# Altium schematic symbol library Iris.SchLib: 154 symbols
Pins are listed as number, name and electrical type; pins without a type are passive.

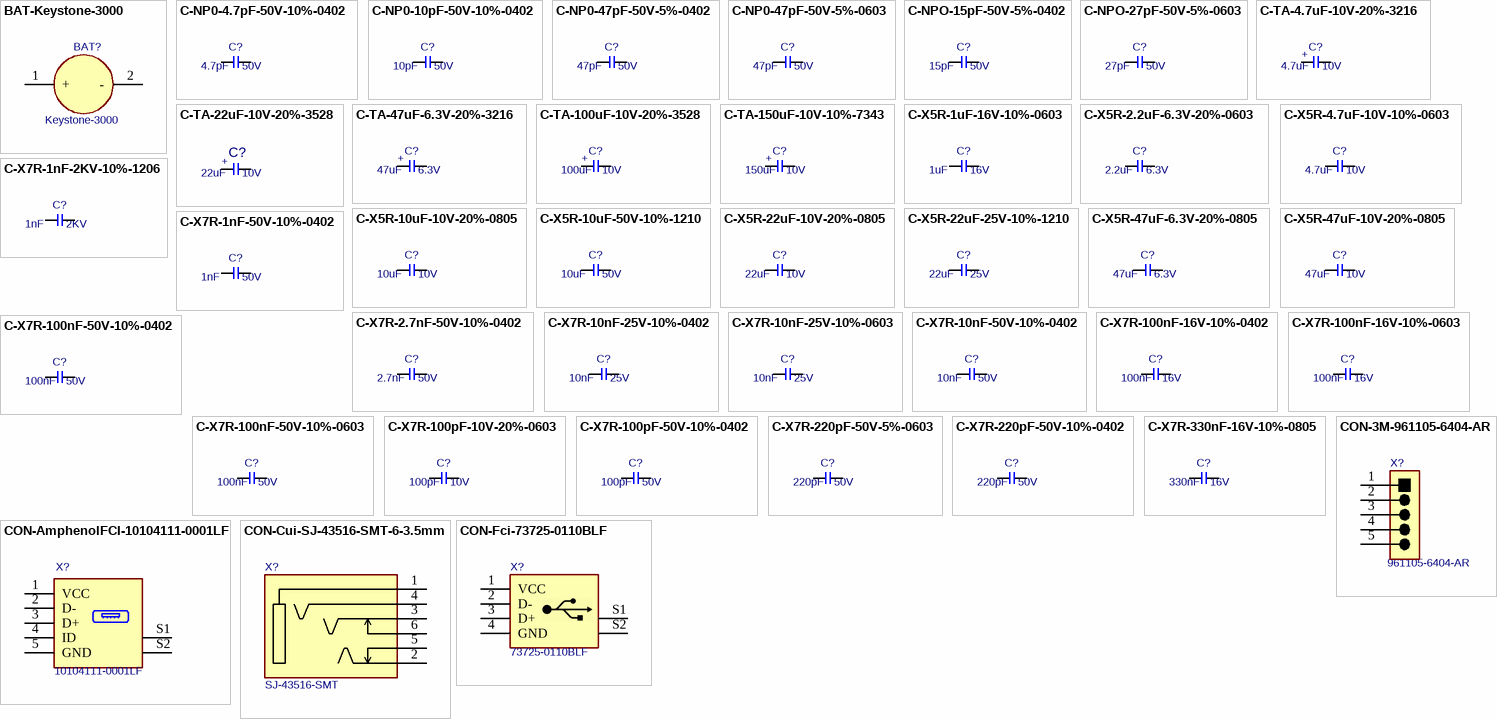
[diagram p0: symbols BAT-Keystone-3000 to CON-Fci-73725-0110BLF]

## BAT-Keystone-3000
designator BAT?, comment Keystone-3000
Battery Holder; Manufacturer Part No.: 3000; Manufacturer Name: Keystone
footprint T_Keystone_3000 (Battery Holder)
pins: 1 +, 2 -

## C-NP0-4.7pF-50V-10%-0402
designator C?, comment Rating: 50V  (hidden comment: 4.7pF)
Capacitor Ceramic NP0  4.7pF 50V 10% 0402; Tolerance: 10%; Type: NP0; Value: 4.7pF
footprint CAPC1005X60N
pins: 1, 2

## C-NP0-10pF-50V-10%-0402
designator C?, comment Rating: 50V  (hidden comment: 10pF)
Capacitor Ceramic NP0 10pF 50V 10% 0402; Tolerance: 10%; Type: NP0; Value: 10pF
footprint CAPC1005X60N
pins: 1, 2

## C-NP0-47pF-50V-5%-0402
designator C?, comment Rating: 50V  (hidden comment: 47pF)
Capacitor Ceramic NP0 47pF 50V 5% 0402; Tolerance: 5%; Type: NP0; Value: 47pF
footprint CAPC1005X60N
pins: 1, 2

## C-NP0-47pF-50V-5%-0603
designator C?, comment Rating: 50V  (hidden comment: 47pF)
Capacitor Ceramic NP0 47pF 50V 5% 0603; Tolerance: 5%; Type: NP0; Value: 47pF
footprint T_CAPC0603X33N
pins: 1, 2

## C-NPO-15pF-50V-5%-0402
designator C?, comment Rating: 50V  (hidden comment: 15pF)
Capacitor Ceramic NPO 15pF 50V 5% 0402; Tolerance: 5%; Type: NPO; Value: 15pF
footprint CAPC1005X60N
pins: 1, 2

## C-NPO-27pF-50V-5%-0603
designator C?, comment Rating: 50V  (hidden comment: 27pF)
Capacitor Ceramic NPO 27pF 50V 5% 0603; Tolerance: 5%; Type: NPO; Value: 27pF
footprint T_CAPC0603X33N
pins: 1, 2

## C-TA-4.7uF-10V-20%-3216
designator C?, comment Rating: 10V  (hidden comment: 4.7uF)
Capacitor TA 4.7pF 10V 20% 3216; Tolerance: 20%; Type: TA; Value: 4.7uF
footprint T_CAPMP3216X180N
pins: 1, 2
text: +

## C-TA-22uF-10V-20%-3528
designator C?, comment Rating: 10V  (hidden comment: 22uF)
Capacitor TA 22uF 10V 20% 3528; Tolerance: 20%; Type: TA; Value: 22uF
footprint CAPMP3528X210N
pins: 1, 2
text: +

## C-TA-47uF-6.3V-20%-3216
designator C?, comment Rating: 6.3V  (hidden comment: 47uF)
Capacitor TA 47uF 6.3V 20% 3216; Tolerance: 20%; Type: TA; Value: 47uF
footprint CAPMP3528X210N
pins: 1, 2
text: +

## C-TA-100uF-10V-20%-3528
designator C?, comment Rating: 10V  (hidden comment: 100uF)
Capacitor TA 100uF 10V 20% 3528; Tolerance: 20%; Type: TA; Value: 100uF
footprint CAPMP3528X210N
pins: 1, 2
text: +

## C-TA-150uF-10V-10%-7343
designator C?, comment Rating: 10V  (hidden comment: 150uF)
Capacitor TA 150uF 10V 20% 7343; Tolerance: 10%; Type: TA; Value: 150uF
footprint CAPMP7343X310N
pins: 1, 2
text: +

## C-X5R-1uF-16V-10%-0603
designator C?, comment Rating: 16V  (hidden comment: 1uF)
Capacitor Ceramic X5R 1uF 16V 10% 0603; Tolerance: 10%; Type: X5R; Value: 1uF
footprint T_CAPC0603X33N
pins: 1, 2

## C-X5R-2.2uF-6.3V-20%-0603
designator C?, comment Rating: 6.3V  (hidden comment: 2.2uF)
Capacitor Ceramic X5R 2.2uF 6.3V 20% 0603; Tolerance: 20%; Type: X5R; Value: 2.2uF
footprint T_CAPC0603X33N
pins: 1, 2

## C-X5R-4.7uF-10V-10%-0603
designator C?, comment Rating: 10V  (hidden comment: 4.7uF)
Capacitor Ceramic X5R 4.7uF 10V 10% 0603; Manufacturer Name: Generic; Tolerance: 10%; Type: X5R; Manufacturer Part No.: *; Value: 4.7uF
footprint T_CAPC0603X33N
pins: 1, 2

## C-X5R-10uF-10V-20%-0805
designator C?, comment Rating: 10V  (hidden comment: 10uF)
Capacitor Ceramic X5R 10uF 10V 20% 0805; Tolerance: 20%; Type: X5R; Value: 10uF
footprint T_CAPC0805X125N
pins: 1, 2

## C-X5R-10uF-50V-10%-1210
designator C?, comment Rating: 50V  (hidden comment: 10uF)
Capacitor Ceramic X5R 10uF 50V 10% 1210; Tolerance: 10%; Type: X5R; Value: 10uF
footprint CAPC3225X160N
pins: 1, 2

## C-X5R-22uF-10V-20%-0805
designator C?, comment Rating: 10V  (hidden comment: 22uF)
Capacitor Ceramic X5R 22uF 10V 20% 0805; Tolerance: 20%; Type: X5R; Value: 22uF
footprint T_CAPC0805X125N
pins: 1, 2

## C-X5R-22uF-25V-10%-1210
designator C?, comment Rating: 25V  (hidden comment: 22uF)
Capacitor Ceramic X5R 22uF 25V 10% 1210; Tolerance: 10%; Type: X5R; Value: 22uF
footprint CAPC3225X160N
pins: 1, 2

## C-X5R-47uF-6.3V-20%-0805
designator C?, comment Rating: 6.3V  (hidden comment: 47uF)
Capacitor Ceramic X5R 47uF 6.3V 20% 0805; Tolerance: 20%; Type: X5R; Value: 47uF
footprint T_CAPC0805X125N
pins: 1, 2

## C-X5R-47uF-10V-20%-0805
designator C?, comment Rating: 10V  (hidden comment: 47uF)
Capacitor Ceramic X5R 47uF 10V 20% 0805; Tolerance: 20%; Type: X5R; Value: 47uF
footprint T_CAPC0805X125N
pins: 1, 2

## C-X7R-1nF-2KV-10%-1206
designator C?, comment Rating: 2KV  (hidden comment: 1nF)
Capacitor Ceramic X7R 1nF 2KV 10% 1206; Tolerance: 10%; Type: X7R; Value: 1nF
footprint T_CAPC1206X180N (Ceramic Capacitor 1206 (3216 metric), max height 1.8mm)
pins: 1, 2

## C-X7R-1nF-50V-10%-0402
designator C?, comment Rating: 50V  (hidden comment: 1nF)
Capacitor Ceramic X7R 1nF 50V 10% 0402; Tolerance: 10%; Type: X7R; Value: 1nF
footprint CAPC1005X60N
pins: 1, 2

## C-X7R-2.7nF-50V-10%-0402
designator C?, comment Rating: 50V  (hidden comment: 2.7nF)
Capacitor Ceramic X7R 2.7nF 50V 10% 0402; Tolerance: 10%; Type: X7R; Value: 2.7nF
footprint CAPC1005X60N
pins: 1, 2

## C-X7R-10nF-25V-10%-0402
designator C?, comment Rating: 25V  (hidden comment: 10nF)
Capacitor Ceramic X7R 10nF 25V 10% 0402; Tolerance: 10%; Type: X7R; Value: 10nF
footprint CAPC1005X60N
pins: 1, 2

## C-X7R-10nF-25V-10%-0603
designator C?, comment Rating: 25V  (hidden comment: 10nF)
Capacitor Ceramic X7R 10nF 25V 10% 0603; Tolerance: 10%; Type: X7R; Value: 10nF
footprint T_CAPC0603X33N
pins: 1, 2

## C-X7R-10nF-50V-10%-0402
designator C?, comment Rating: 50V  (hidden comment: 10nF)
Capacitor Ceramic X7R 10nF 50V 10% 0402; Tolerance: 10%; Type: X7R; Value: 10nF
footprint CAPC1005X60N
pins: 1, 2

## C-X7R-100nF-16V-10%-0402
designator C?, comment Rating: 16V  (hidden comment: 100nF)
Capacitor Ceramic X7R 100nF 16V 10% 0402; Tolerance: 10%; Type: X7R; Value: 100nF
footprint CAPC1005X60N
pins: 1, 2

## C-X7R-100nF-16V-10%-0603
designator C?, comment Rating: 16V  (hidden comment: 100nF)
Capacitor Ceramic X7R 100nF 16V 10% 0603; Tolerance: 10%; Type: X7R; Value: 100nF
footprint T_CAPC0603X33N
pins: 1, 2

## C-X7R-100nF-50V-10%-0402
designator C?, comment Rating: 50V  (hidden comment: 100nF)
Capacitor Ceramic X7R 100nF 50V 10% 0402; Tolerance: 10%; Type: X7R; Value: 100nF
footprint CAPC1005X60N
pins: 1, 2

## C-X7R-100nF-50V-10%-0603
designator C?, comment Rating: 50V  (hidden comment: 100nF)
Capacitor Ceramic X7R 100nF 50V 10% 0603; Tolerance: 10%; Type: X7R; Value: 100nF
footprint T_CAPC0603X33N
pins: 1, 2

## C-X7R-100pF-10V-20%-0603
designator C?, comment Rating: 10V  (hidden comment: 100pF)
Capacitor Ceramic X7R 100pF 10V 20% 0603; Tolerance: 20%; Type: X7R; Value: 100pF
footprint T_CAPC0603X33N
pins: 1, 2

## C-X7R-100pF-50V-10%-0402
designator C?, comment Rating: 50V  (hidden comment: 100pF)
Capacitor Ceramic X7R 100pF 50V 10% 0402; Tolerance: 10%; Type: X7R; Value: 100pF
footprint CAPC1005X60N (Ceramic Capacitor 0402 (1005 metric), max height 0.5mm)
pins: 1, 2

## C-X7R-220pF-50V-5%-0603
designator C?, comment Rating: 50V  (hidden comment: 220pF)
Capacitor Ceramic X7R 220pF 50V 5% 0603; Tolerance: 5%; Type: X7R; Value: 220pF
footprint T_CAPC0603X33N
pins: 1, 2

## C-X7R-220pF-50V-10%-0402
designator C?, comment Rating: 50V  (hidden comment: 220pF)
Capacitor Ceramic X7R 220pF 50V 10% 0402; Tolerance: 10%; Type: X7R; Value: 220pF
footprint CAPC1005X60N
pins: 1, 2

## C-X7R-330nF-16V-10%-0805
designator C?, comment Rating: 16V  (hidden comment: 330nF)
Capacitor Ceramic X7R 330nF 16V 10% 0805; Tolerance: 10%; Type: X7R; Value: 330nF
footprint T_CAPC0805X125N
pins: 1, 2

## CON-3M-961105-6404-AR
designator X?, comment 961105-6404-AR
Audio Header 5 pins 2.54mm; Manufacturer Name: 3M; No. of ways: 1X5; Pitch: 2.54mm; Manufacturer Part No.: 961105-6404-AR
footprint T_3M_961105-6404-AR (Connector; Header; 35 Position)
pins: 1, 2, 3, 4, 5

## CON-AmphenolFCI-10104111-0001LF
designator X?, comment 10104111-0001LF
USB - micro AB USB 2.0 5 Position Surface Mount, Right Angle, Horizontal; Manufacturer Name: Amphenol FCI; No. of ways: 5; Manufacturer Part No.: 10104111-0001LF
footprint CON-AmphenolFCI-10104111-0001LF (USB - micro AB USB 2.0 5 Position Surface Mount, Right Angle, Horizontal)
pins: 1 VCC (power), 2 D-, 3 D+, 4 ID, 5 GND (power), S1 (power), S2 (power)

## CON-Cui-SJ-43516-SMT-6-3.5mm
designator X?, comment SJ-43516-SMT
3.5mm Stereo Jack SMD with Detect Contact; Manufacturer Name: Cui INC; No. of ways: 6; Manufacturer Part No.: SJ-43516-SMT
footprint T_CI_SJ-43516-SMT (STEREO_3.5mm AUDIO JACK  CUI)
pins: 1, 2, 3, 4, 5, 6

## CON-Fci-73725-0110BLF
designator X?  Manufacturer Part No.: 73725-0110BLF
USB Type A Connector; Manufacturer Name: FCI; No. of ways: 4
footprint T_FCI_73725-0110BLF (USB Type A Connector Vertical)
pins: 1 VCC (power), 2 D-, 3 D+, 4 GND (power), S1, S2

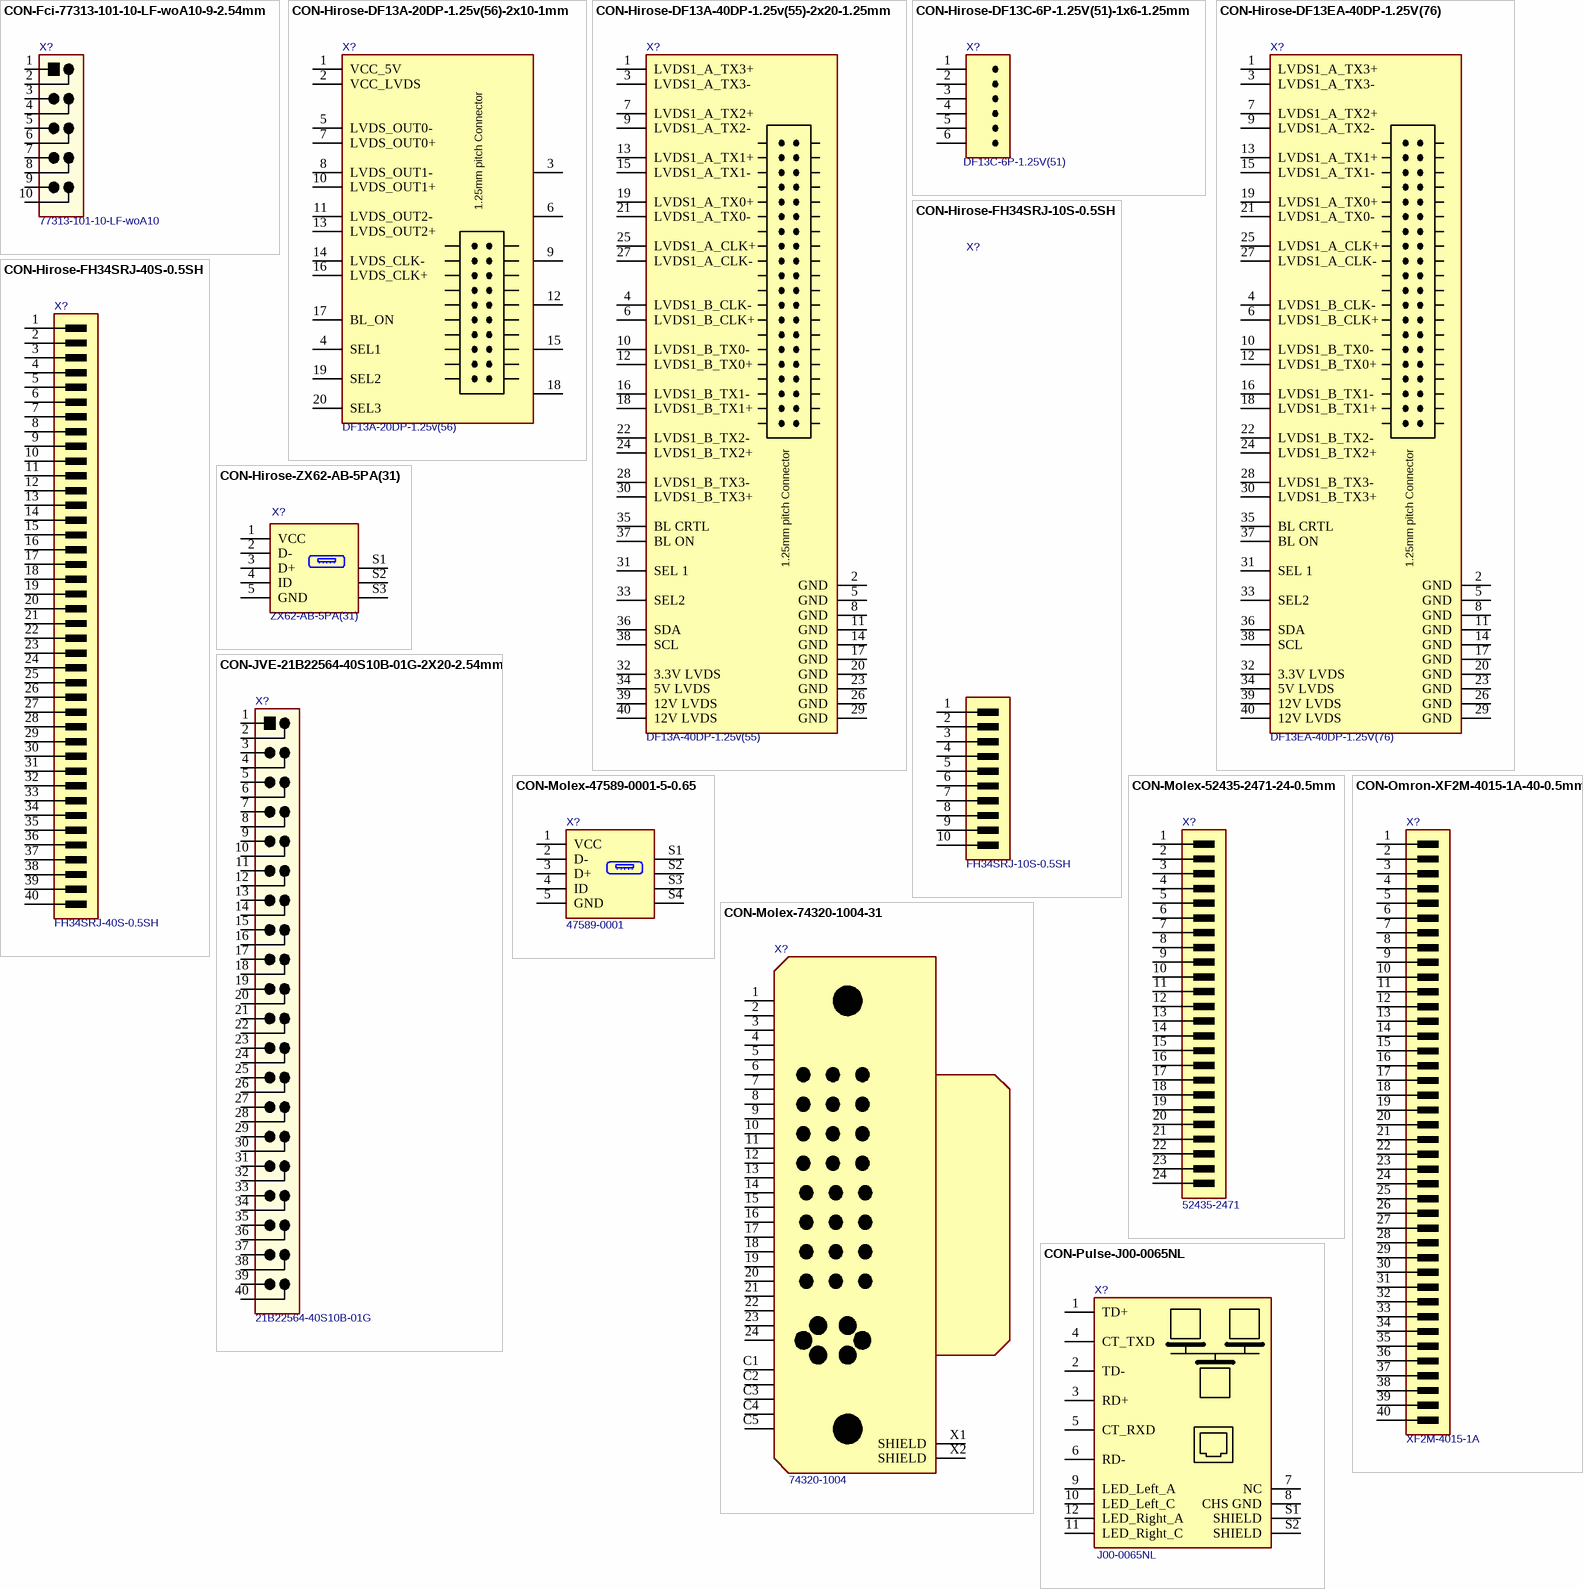
[diagram p1: symbols CON-Fci-77313-101-10-LF-woA10-9-2.54mm to CON-Pulse-J00-0065NL]

## CON-Fci-77313-101-10-LF-woA10-9-2.54mm
designator X?, comment 77313-101-10-LF-woA10
RS232 Header; Manufacturer Name: FCI; No. of ways: 9; Manufacturer Part No.: 77313-101-10-LF-woA10
footprint T_FCI_77313-101-10-LF-woA10 (2.54 mm header)
pins: 1, 2, 3, 4, 5, 6, 7, 8, 9, 10

## CON-Hirose-DF13A-20DP-1.25v(56)-2x10-1mm
designator X?  Manufacturer Part No.: DF13A-20DP-1.25v(56)  (hidden comment: CON-Hirose-DF13A-20DP-1.25v(56)-2x10-1mm)
LVDS Connector; Manufacturer Name: Hirose; No. of ways: 2x10; Pitch: 1mm
footprint T_HIROSE_DF13A-20DP-1.25V(56)
pins: 1 VCC_5V, 2 VCC_LVDS, 3 GND, 4 SEL1, 5 LVDS_OUT0-, 6 GND, 7 LVDS_OUT0+, 8 LVDS_OUT1-, 9 GND, 10 LVDS_OUT1+, 11 LVDS_OUT2-, 12 GND, 13 LVDS_OUT2+, 14 LVDS_CLK-, 15 GND, 16 LVDS_CLK+, 17 BL_ON, 18 GND, 19 SEL2, 20 SEL3
text: 1.25mm pitch Connector

## CON-Hirose-DF13A-40DP-1.25v(55)-2x20-1.25mm
designator X?, comment Manufacturer Part No.: DF13A-40DP-1.25v(55)  (hidden comment: CON-Hirose-DF13A-40DP-1.25v(55)-2x10-1mm)
LVDS Connector; Manufacturer Name: Hirose; No. of ways: 2x20; Pitch: 1.25mm
footprint T_HIROSE_DF13A-40DP-1.25V(55)
pins: 1 LVDS1_A_TX3+, 2 GND, 3 LVDS1_A_TX3-, 4 LVDS1_B_CLK-, 5 GND, 6 LVDS1_B_CLK+, 7 LVDS1_A_TX2+, 8 GND, 9 LVDS1_A_TX2-, 10 LVDS1_B_TX0-, 11 GND, 12 LVDS1_B_TX0+, 13 LVDS1_A_TX1+, 14 GND, 15 LVDS1_A_TX1-, 16 LVDS1_B_TX1-, 17 GND, 18 LVDS1_B_TX1+, 19 LVDS1_A_TX0+, 20 GND, 21 LVDS1_A_TX0-, 22 LVDS1_B_TX2-, 23 GND, 24 LVDS1_B_TX2+, 25 LVDS1_A_CLK+, 26 GND, 27 LVDS1_A_CLK-, 28 LVDS1_B_TX3-, 29 GND, 30 LVDS1_B_TX3+, 31 SEL 1, 32 3.3V LVDS, 33 SEL2, 34 5V LVDS, 35 BL CRTL, 36 SDA, 37 BL ON, 38 SCL, 39 12V LVDS, 40 12V LVDS
text: 1.25mm pitch Connector

## CON-Hirose-DF13C-6P-1.25V(51)-1x6-1.25mm
designator X?, comment DF13C-6P-1.25V(51)
Touch Connector; Manufacturer Name: Hirose; No. of ways: 1X6; Pitch: 1.25mm; Manufacturer Part No.: DF13C-6P-1.25V(51)
footprint T_HIROSE_DF13C-6P-1.25V(51) (Touch connector)
pins: 1 GND, 2 TSMY, 3 TSPY, 4 TSMX, 5 TSPX, 6 WIPER

## CON-Hirose-DF13EA-40DP-1.25V(76)
designator X?, comment DF13EA-40DP-1.25V(76)
LVDS Connector, 2x20 pin, 1.25mm pitch, SMD; Manufacturer Name: Hirose; No. of ways: 2x20; Pitch: 1.25mm; Manufacturer Part No.: DF13EA-40DP-1.25V(76)
footprint T_HIROSE_DF13A-40DP-1.25V(55)
pins: 1 LVDS1_A_TX3+, 2 GND, 3 LVDS1_A_TX3-, 4 LVDS1_B_CLK-, 5 GND, 6 LVDS1_B_CLK+, 7 LVDS1_A_TX2+, 8 GND, 9 LVDS1_A_TX2-, 10 LVDS1_B_TX0-, 11 GND, 12 LVDS1_B_TX0+, 13 LVDS1_A_TX1+, 14 GND, 15 LVDS1_A_TX1-, 16 LVDS1_B_TX1-, 17 GND, 18 LVDS1_B_TX1+, 19 LVDS1_A_TX0+, 20 GND, 21 LVDS1_A_TX0-, 22 LVDS1_B_TX2-, 23 GND, 24 LVDS1_B_TX2+, 25 LVDS1_A_CLK+, 26 GND, 27 LVDS1_A_CLK-, 28 LVDS1_B_TX3-, 29 GND, 30 LVDS1_B_TX3+, 31 SEL 1, 32 3.3V LVDS, 33 SEL2, 34 5V LVDS, 35 BL CRTL, 36 SDA, 37 BL ON, 38 SCL, 39 12V LVDS, 40 12V LVDS
text: 1.25mm pitch Connector

## CON-Hirose-FH34SRJ-10S-0.5SH
designator X?, comment FH34SRJ-10S-0.5SH
FFC Connector, 10 pin, 0.5mm pitch, dual side contact; Manufacturer Name: Hirose; No. of ways: 10; Pitch: 0.5mm; Manufacturer Part No.: FH34SRJ-10S-0.5SH
footprint T_Hirose_FH34SRJ-10S-0.5SH (FFC Connector, 10 pin, 0.5mm pitch, dual side contact)
pins: 1, 2, 3, 4, 5, 6, 7, 8, 9, 10

## CON-Hirose-FH34SRJ-40S-0.5SH
designator X?, comment FH34SRJ-40S-0.5SH
FFC Connector, 40 pin, 0.5mm pitch, dual side contact; Manufacturer Name: Hirose; No. of ways: 40; Pitch: 0.5mm; Manufacturer Part No.: FH34SRJ-40S-0.5SH
footprint T_Hirose_FH34SRJ-40S-0.5SH (FFC Connector, 40 pin, 0.5mm pitch, dual side contact)
pins: 1, 2, 3, 4, 5, 6, 7, 8, 9, 10, 11, 12, 13, 14, 15, 16, 17, 18, 19, 20, 21, 22, 23, 24, 25, 26, 27, 28, 29, 30, 31, 32, 33, 34, 35, 36, 37, 38, 39, 40

## CON-Hirose-ZX62-AB-5PA(31)
designator X?, comment ZX62-AB-5PA(31)
Micro AB USB-2.0, 5 Position, Surface Mount, Right Angle, Horizontal; Manufacturer Name: Hirose; No. of ways: 5; Manufacturer Part No.: ZX62-AB-5PA(31)
footprint CON-MicroUSB2.0-Type_AB-SMD (USB - micro AB USB 2.0, 5 Position, Surface Mount, Right Angle, Horizontal)
pins: 1 VCC (power), 2 D-, 3 D+, 4 ID, 5 GND (power), S1 (power), S2 (power), S3 (power)

## CON-JVE-21B22564-40S10B-01G-2X20-2.54mm
designator X?, comment 21B22564-40S10B-01G
2X20 PIN Header 2.54mm; Manufacturer Name: JVE; No. of ways: 2X20; Manufacturer Part No.: 21B22564-40S10B-01G
footprint T_JVE_21B22564-40S10B-01G (Header 2x20)
pins: 1, 2, 3, 4, 5, 6, 7, 8, 9, 10, 11, 12, 13, 14, 15, 16, 17, 18, 19, 20, 21, 22, 23, 24, 25, 26, 27, 28, 29, 30, 31, 32, 33, 34, 35, 36, 37, 38, 39, 40

## CON-Molex-47589-0001-5-0.65
designator X?, comment 47589-0001
Micro USB 2.0 OTG Connector; Manufacturer Name: Molex; No. of ways: 5; Manufacturer Part No.: 47589-0001
footprint T_Molex_47589-0001 (Micro USB Connector)
pins: 1 VCC (power), 2 D-, 3 D+, 4 ID, 5 GND (power), S1, S2, S3, S4

## CON-Molex-52435-2471-24-0.5mm
designator X?, comment 52435-2471
0.50mm Pitch FFC/FPC DVI Connector; Manufacturer Name: Molex; No. of ways: 24; Pitch: 0.5mm; Manufacturer Part No.: 52435-2471
footprint T_MOLEX_52435-2471 (DVI FFC Connector 0.5mm pitch)
pins: 1 GND, 2 TMDS_CLK_P, 3 TMDS_CLK_N, 4 GND, 5 TMDS_DATA0_P, 6 TMDS_DATA0_N, 7 GND, 8 TMDS_DATA1_P, 9 TMDS_DATA1_N, 10 GND, 11 TMDS_DATA2_P, 12 TMDS_DATA2_N, 13 VDD, 14 HOTPLUG_DETECT, 15 DDC_CLK, 16 DDC_DATA, 17 GND, 18 CRT_RED, 19 GND, 20 CRT_GREEN, 21 GND, 22 CRT_BLUE, 23 CRT_VSYNC, 24 CRT_HSYNC

## CON-Molex-74320-1004-31
designator X?  Manufacturer Part No.: 74320-1004  (hidden comment: CON-Molex-74320-1004-31)
DVI Connector; Manufacturer Name: Molex; No. of ways: 31
footprint T_MOLEX_74320-1004 (DVI Connector)
pins: 1 TMDS_DATA2_N, 2 TMDS_DATA2_P, 3 GND, 4 TMDS_DATA4_N, 5 TMDS_DATA4_P, 6 DDC_CLK, 7 DDC_DATA, 8 CRT_VSYNC, 9 TMDS_DATA1_N, 10 TMDS_DATA1_P, 11 GND, 12 TMDS_DATA3_N, 13 TMDS_DATA3_P, 14 VDD_DVI, 15 GND, 16 HOTPLUG_DETECT, 17 TMDS_DATA0_N, 18 TMDS_DATA0_P, 19 GND, 20 TMDS_DATA5_N, 21 TMDS_DATA5_P, 22 GND, 23 TMDS_CLK_P, 24 TMDS_CLK_N, C1 CRT_RED, C2 CRT_GREEN, C3 CRT_BLUE, C4 CRT_HSYNC, C5 GND, X1 SHIELD, X2 SHIELD

## CON-Omron-XF2M-4015-1A-40-0.5mm
designator X?, comment XF2M-4015-1A
RGB Connector; Manufacturer Name: Omron; No. of ways: 40; Pitch: 0.5mm; Manufacturer Part No.: XF2M-4015-1A
footprint T_Omron_XF2M-4015-1A (DVI FFC Connector 0.5mm pitch)
pins: 1 VSS (power), 2 VSS (power), 3 VCC (power), 4 VCC (power), 5 PWCTRL, 6 LEDCTRL, 7 RESET#, 8 B5, 9 B4, 10 B3, 11 B2, 12 B1, 13 B0, 14 VSS, 15 G5, 16 G4, 17 G3, 18 G2, 19 G1, 20 G0, 21 VSS, 22 R5, 23 R4, 24 R3, 25 R2, 26 R1, 27 R0, 28 DCLK, 29 VSS, 30 HSYNC, 31 VSYNC, 32 ENB, 33 NC, 34 SHUT, 35 VSS, 36 VDD, 37 YU, 38 XR, 39 YD, 40 XL

## CON-Pulse-J00-0065NL
designator X?, comment J00-0065NL
RJ45 Connector; Manufacturer Name: Pulse; No. of ways: 12; Manufacturer Part No.: J00-0065NL
footprint T_Pulse_J00-0065NL (RJ45 Connector)
pins: 1 TD+, 2 TD-, 3 RD+, 4 CT_TXD, 5 CT_RXD, 6 RD-, 7 NC, 8 CHS GND, 9 LED_Left_A, 10 LED_Left_C, 11 LED_Right_C, 12 LED_Right_A, S1 SHIELD, S2 SHIELD

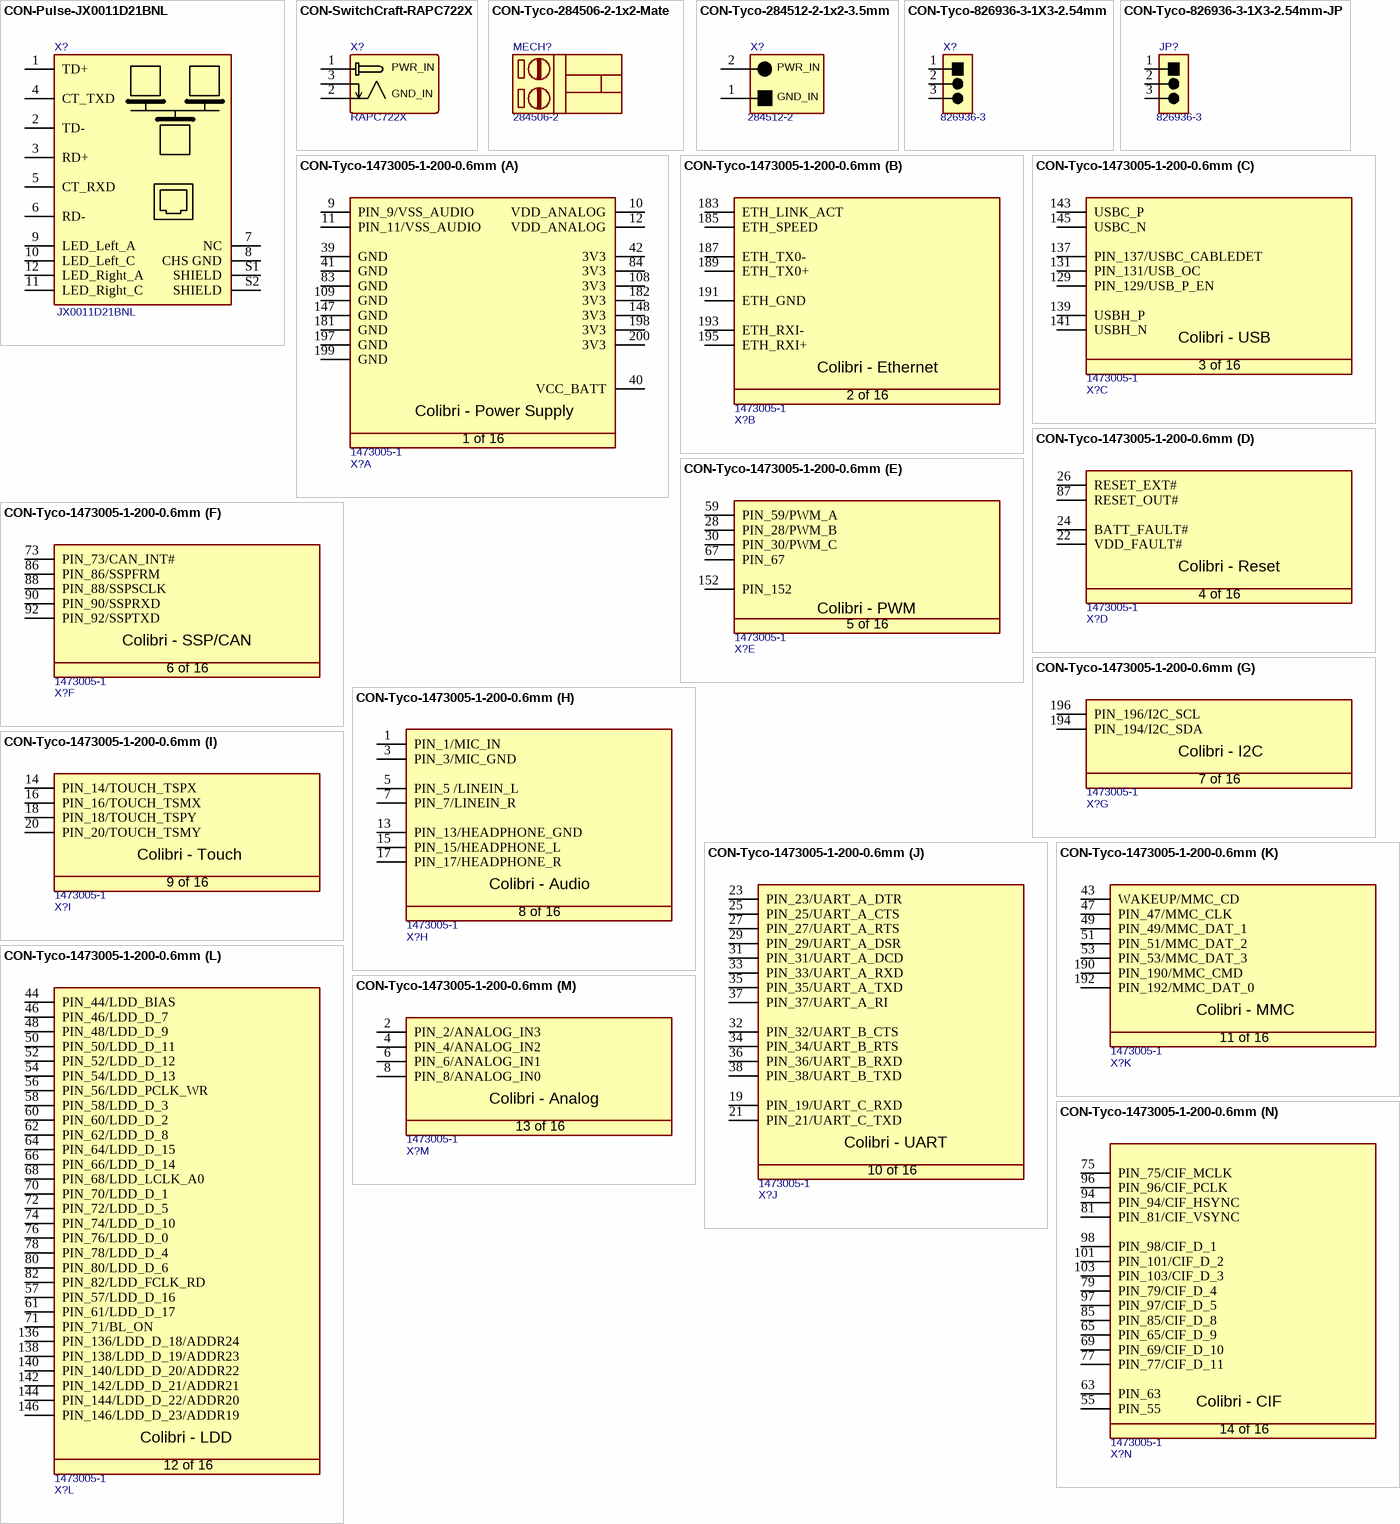
[diagram p2: symbols CON-Pulse-JX0011D21BNL to CON-Tyco-1473005-1-200-0.6mm]

## CON-Pulse-JX0011D21BNL
designator X?, comment JX0011D21BNL
RJ45 connector with magentics, 10/100 Base-TX, AutoMDIX, Through Hole; Manufacturer Name: Pulse; No. of ways: 12; Manufacturer Part No.: JX0011D21BNL
footprint T_Pulse_J00-0065NL (RJ45 Connector)
pins: 1 TD+, 2 TD-, 3 RD+, 4 CT_TXD, 5 CT_RXD, 6 RD-, 7 NC, 8 CHS GND, 9 LED_Left_A, 10 LED_Left_C, 11 LED_Right_C, 12 LED_Right_A, S1 SHIELD, S2 SHIELD

## CON-SwitchCraft-RAPC722X
designator X?, comment RAPC722X
Barrel Power Connector; Manufacturer Name: SwitchCraft; Manufacturer Part No.: RAPC722X
footprint T_RAPC722X (Connector, 2.1mm (Dia), 5.5mm(Dia), Round Power Socket)
pins: 1 GND_IN, 2 PWR_IN, 3 PWR_IN

## CON-Tyco-284506-2-1x2-Mate
designator MECH?, comment 284506-2
Terminal Block Power Connector Mate; Manufacturer Name: Tyco; No. of ways: 1x2; Pitch: 3.5mm; Manufacturer Part No.: 284506-2

## CON-Tyco-284512-2-1x2-3.5mm
designator X?, comment 284512-2
Terminal Block Power Connector; Manufacturer Name: Tyco; No. of ways: 1x2; Pitch: 3.5mm; Manufacturer Part No.: 284512-2
footprint T_TYCO_284512-2 (Power Connector 3.5mm)
pins: 1 GND_IN, 2 PWR_IN

## CON-Tyco-826936-3-1X3-2.54mm
designator X?, comment 826936-3
Header, 3-Pin; Manufacturer Name: Tyco; No. of ways: 1X3; Pitch: 2.54mm; Manufacturer Part No.: 826936-3
footprint T_TYCO_826936-3 (Connector; Header; 3 Position)
pins: 1, 2, 3

## CON-Tyco-826936-3-1X3-2.54mm-JP
designator JP?, comment 826936-3
Jumper, 3-Pin; Manufacturer Name: Tyco; No. of ways: 1X3; Pitch: 2.54mm; Manufacturer Part No.: 826936-3
footprint T_TYCO_826936-3 (Connector; Header; 3 Position)
pins: 1, 2, 3

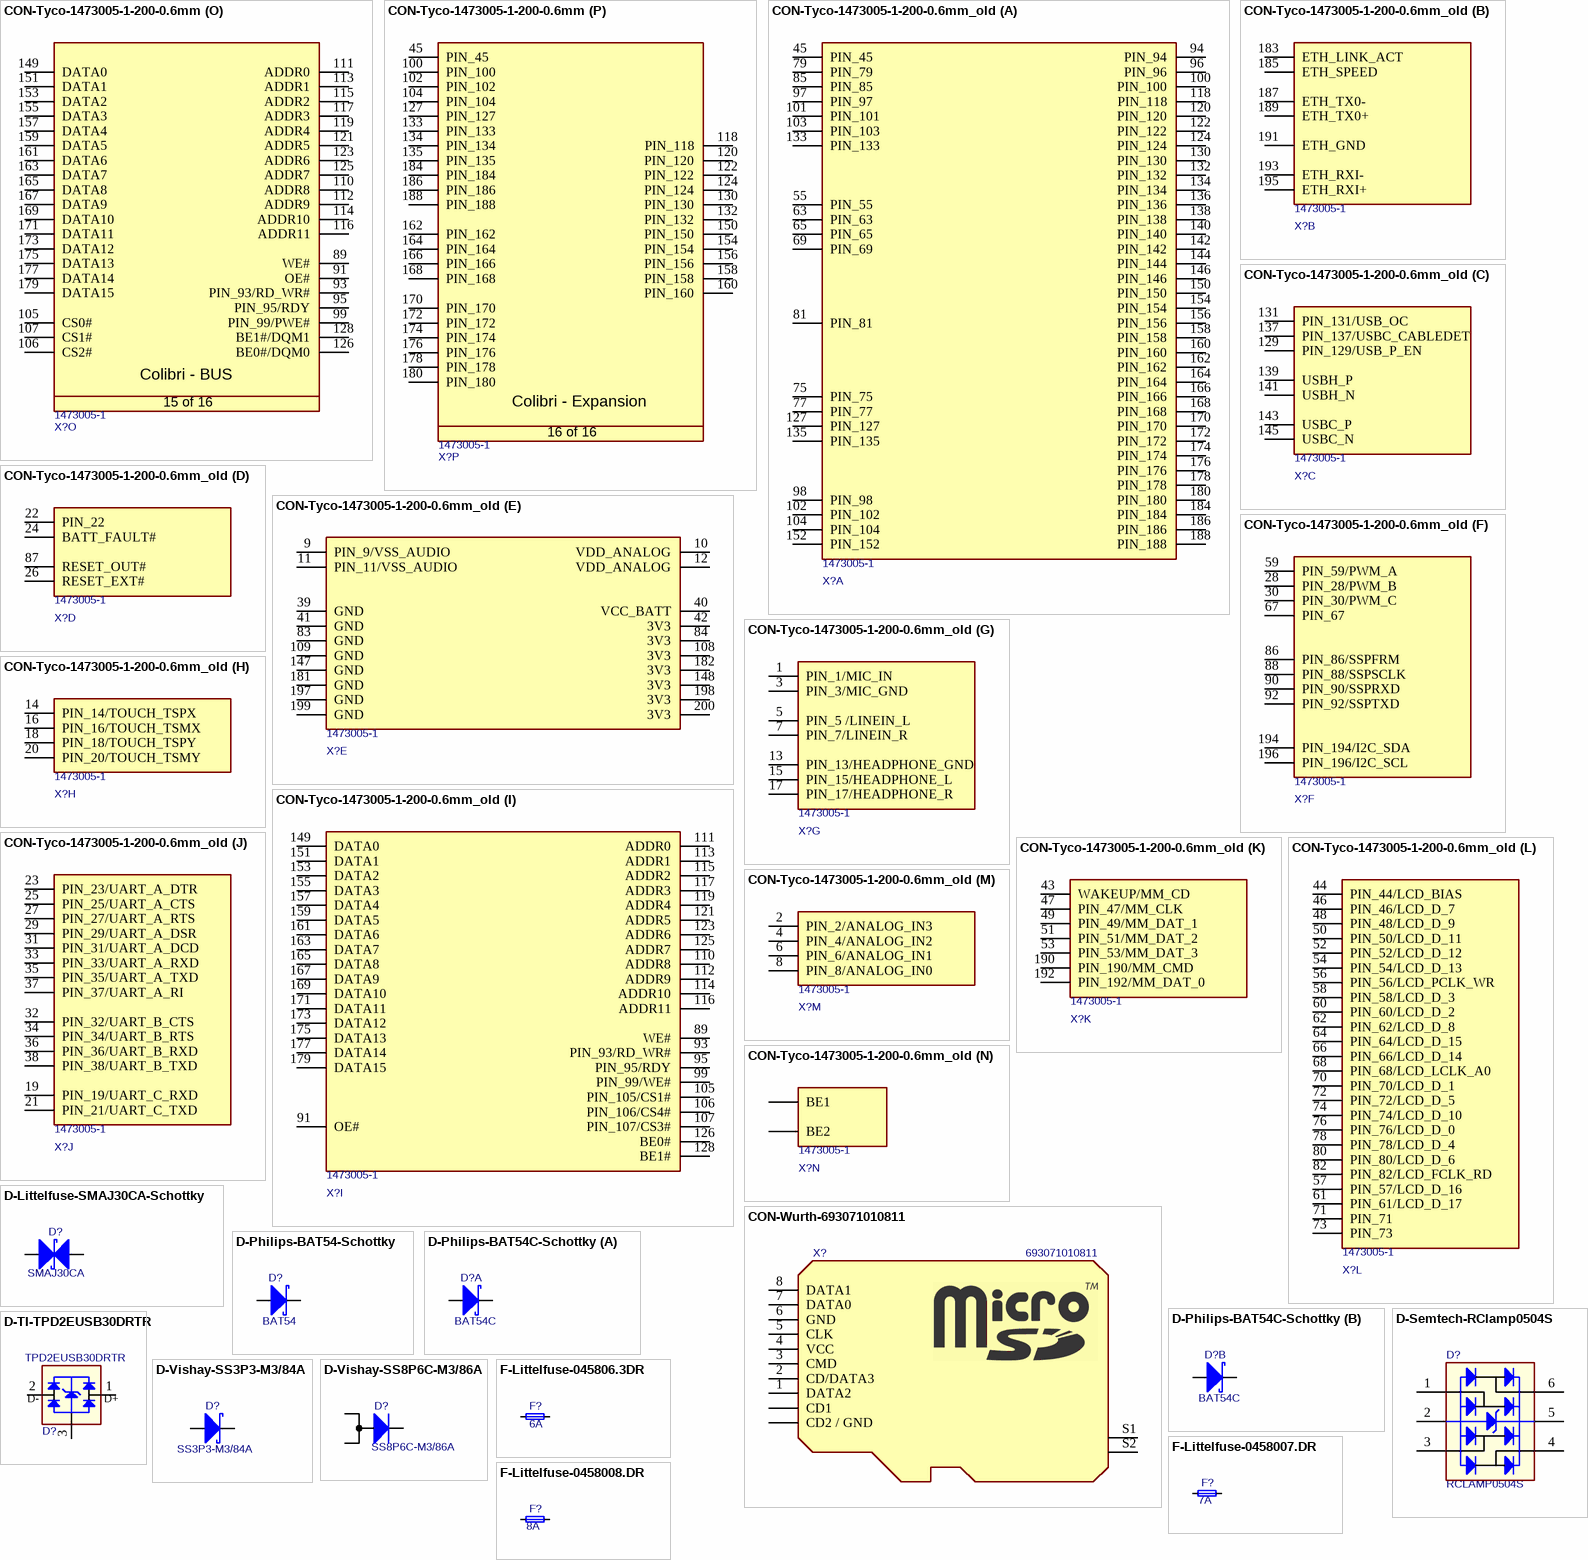
[diagram p3: symbols CON-Tyco-1473005-1-200-0.6mm to F-Littelfuse-0458008.DR]

## CON-Tyco-1473005-1-200-0.6mm
designator X?, comment 1473005-1
SODIMM Connector; Manufacturer Name: Tyco; No. of ways: 200; Manufacturer Part No.: 1473005-1
footprint T_Tyco_1473005-1 (SODIMM Connector)
part A pins: 9 PIN_9/VSS_AUDIO, 10 VDD_ANALOG, 11 PIN_11/VSS_AUDIO, 12 VDD_ANALOG, 39 GND (power), 40 VCC_BATT (power), 41 GND (power), 42 3V3 (power), 83 GND (power), 84 3V3 (power), 108 3V3, 109 GND (power), 147 GND (power), 148 3V3, 181 GND (power), 182 3V3 (power), 197 GND (power), 198 3V3 (power), 199 GND (power), 200 3V3 (power)
part B pins: 183 ETH_LINK_ACT, 185 ETH_SPEED, 187 ETH_TX0-, 189 ETH_TX0+, 191 ETH_GND, 193 ETH_RXI-, 195 ETH_RXI+
part C pins: 129 PIN_129/USB_P_EN, 131 PIN_131/USB_OC, 137 PIN_137/USBC_CABLEDET, 139 USBH_P, 141 USBH_N, 143 USBC_P, 145 USBC_N
part D pins: 22 VDD_FAULT#, 24 BATT_FAULT#, 26 RESET_EXT#, 87 RESET_OUT#
part E pins: 28 PIN_28/PWM_B, 30 PIN_30/PWM_C, 59 PIN_59/PWM_A, 67 PIN_67, 152 PIN_152
part F pins: 73 PIN_73/CAN_INT#, 86 PIN_86/SSPFRM, 88 PIN_88/SSPSCLK, 90 PIN_90/SSPRXD, 92 PIN_92/SSPTXD
part G pins: 194 PIN_194/I2C_SDA, 196 PIN_196/I2C_SCL
part H pins: 1 PIN_1/MIC_IN, 3 PIN_3/MIC_GND, 5 PIN_5 /LINEIN_L, 7 PIN_7/LINEIN_R, 13 PIN_13/HEADPHONE_GND, 15 PIN_15/HEADPHONE_L, 17 PIN_17/HEADPHONE_R
part I pins: 14 PIN_14/TOUCH_TSPX, 16 PIN_16/TOUCH_TSMX, 18 PIN_18/TOUCH_TSPY, 20 PIN_20/TOUCH_TSMY
part J pins: 19 PIN_19/UART_C_RXD, 21 PIN_21/UART_C_TXD, 23 PIN_23/UART_A_DTR, 25 PIN_25/UART_A_CTS, 27 PIN_27/UART_A_RTS, 29 PIN_29/UART_A_DSR, 31 PIN_31/UART_A_DCD, 32 PIN_32/UART_B_CTS, 33 PIN_33/UART_A_RXD, 34 PIN_34/UART_B_RTS, 35 PIN_35/UART_A_TXD, 36 PIN_36/UART_B_RXD, 37 PIN_37/UART_A_RI, 38 PIN_38/UART_B_TXD
part K pins: 43 WAKEUP/MMC_CD, 47 PIN_47/MMC_CLK, 49 PIN_49/MMC_DAT_1, 51 PIN_51/MMC_DAT_2, 53 PIN_53/MMC_DAT_3, 190 PIN_190/MMC_CMD, 192 PIN_192/MMC_DAT_0
part L pins: 44 PIN_44/LDD_BIAS, 46 PIN_46/LDD_D_7, 48 PIN_48/LDD_D_9, 50 PIN_50/LDD_D_11, 52 PIN_52/LDD_D_12, 54 PIN_54/LDD_D_13, 56 PIN_56/LDD_PCLK_WR, 57 PIN_57/LDD_D_16, 58 PIN_58/LDD_D_3, 60 PIN_60/LDD_D_2, 61 PIN_61/LDD_D_17, 62 PIN_62/LDD_D_8, 64 PIN_64/LDD_D_15, 66 PIN_66/LDD_D_14, 68 PIN_68/LDD_LCLK_A0, 70 PIN_70/LDD_D_1, 71 PIN_71/BL_ON, 72 PIN_72/LDD_D_5, 74 PIN_74/LDD_D_10, 76 PIN_76/LDD_D_0, 78 PIN_78/LDD_D_4, 80 PIN_80/LDD_D_6, 82 PIN_82/LDD_FCLK_RD, 136 PIN_136/LDD_D_18/ADDR24, 138 PIN_138/LDD_D_19/ADDR23, 140 PIN_140/LDD_D_20/ADDR22, 142 PIN_142/LDD_D_21/ADDR21, 144 PIN_144/LDD_D_22/ADDR20, 146 PIN_146/LDD_D_23/ADDR19
part M pins: 2 PIN_2/ANALOG_IN3, 4 PIN_4/ANALOG_IN2, 6 PIN_6/ANALOG_IN1, 8 PIN_8/ANALOG_IN0
part N pins: 55 PIN_55, 63 PIN_63, 65 PIN_65/CIF_D_9, 69 PIN_69/CIF_D_10, 75 PIN_75/CIF_MCLK, 77 PIN_77/CIF_D_11, 79 PIN_79/CIF_D_4, 81 PIN_81/CIF_VSYNC, 85 PIN_85/CIF_D_8, 94 PIN_94/CIF_HSYNC, 96 PIN_96/CIF_PCLK, 97 PIN_97/CIF_D_5, 98 PIN_98/CIF_D_1, 101 PIN_101/CIF_D_2, 103 PIN_103/CIF_D_3
part O pins: 89 WE#, 91 OE#, 93 PIN_93/RD_WR#, 95 PIN_95/RDY, 99 PIN_99/PWE#, 105 CS0#, 106 CS2#, 107 CS1#, 110 ADDR8, 111 ADDR0, 112 ADDR9, 113 ADDR1, 114 ADDR10, 115 ADDR2, 116 ADDR11, 117 ADDR3, 119 ADDR4, 121 ADDR5, 123 ADDR6, 125 ADDR7, 126 BE0#/DQM0, 128 BE1#/DQM1, 149 DATA0, 151 DATA1, 153 DATA2, 155 DATA3, 157 DATA4, 159 DATA5, 161 DATA6, 163 DATA7, 165 DATA8, 167 DATA9, 169 DATA10, 171 DATA11, 173 DATA12, 175 DATA13, 177 DATA14, 179 DATA15
part P pins: 45 PIN_45, 100 PIN_100, 102 PIN_102, 104 PIN_104, 118 PIN_118, 120 PIN_120, 122 PIN_122, 124 PIN_124, 127 PIN_127, 130 PIN_130, 132 PIN_132, 133 PIN_133, 134 PIN_134, 135 PIN_135, 150 PIN_150, 154 PIN_154, 156 PIN_156, 158 PIN_158, 160 PIN_160, 162 PIN_162, 164 PIN_164, 166 PIN_166, 168 PIN_168, 170 PIN_170, 172 PIN_172, 174 PIN_174, 176 PIN_176, 178 PIN_178, 180 PIN_180, 184 PIN_184, 186 PIN_186, 188 PIN_188
part A text: Colibri - Power Supply; 1 of 16
part B text: Colibri - Ethernet; 2 of 16
part C text: Colibri - USB; 3 of 16
part D text: Colibri - Reset; 4 of 16
part E text: Colibri - PWM; 5 of 16
part F text: Colibri - SSP/CAN; 6 of 16
part G text: Colibri - I2C; 7 of 16
part H text: Colibri - Audio; 8 of 16
part I text: Colibri - Touch; 9 of 16
part J text: Colibri - UART; 10 of 16
part K text: Colibri - MMC; 11 of 16
part L text: Colibri - LDD; 12 of 16
part M text: Colibri - Analog; 13 of 16
part N text: Colibri - CIF; 14 of 16
part O text: Colibri - BUS; 15 of 16
part P text: Colibri - Expansion; 16 of 16

## CON-Tyco-1473005-1-200-0.6mm_old
designator X?, comment 1473005-1
SODIMM Connector; Manufacturer Name: Tyco; No. of ways: 200; Manufacturer Part No.: 1473005-1
footprint T_Tyco_1473005-1 (SODIMM Connector)
part A pins: 45 PIN_45, 55 PIN_55, 63 PIN_63, 65 PIN_65, 69 PIN_69, 75 PIN_75, 77 PIN_77, 79 PIN_79, 81 PIN_81, 85 PIN_85, 94 PIN_94, 96 PIN_96, 97 PIN_97, 98 PIN_98, 100 PIN_100, 101 PIN_101, 102 PIN_102, 103 PIN_103, 104 PIN_104, 118 PIN_118, 120 PIN_120, 122 PIN_122, 124 PIN_124, 127 PIN_127, 130 PIN_130, 132 PIN_132, 133 PIN_133, 134 PIN_134, 135 PIN_135, 136 PIN_136, 138 PIN_138, 140 PIN_140, 142 PIN_142, 144 PIN_144, 146 PIN_146, 150 PIN_150, 152 PIN_152, 154 PIN_154, 156 PIN_156, 158 PIN_158, 160 PIN_160, 162 PIN_162, 164 PIN_164, 166 PIN_166, 168 PIN_168, 170 PIN_170, 172 PIN_172, 174 PIN_174, 176 PIN_176, 178 PIN_178, 180 PIN_180, 184 PIN_184, 186 PIN_186, 188 PIN_188
part B pins: 183 ETH_LINK_ACT, 185 ETH_SPEED, 187 ETH_TX0-, 189 ETH_TX0+, 191 ETH_GND, 193 ETH_RXI-, 195 ETH_RXI+
part C pins: 129 PIN_129/USB_P_EN, 131 PIN_131/USB_OC, 137 PIN_137/USBC_CABLEDET, 139 USBH_P, 141 USBH_N, 143 USBC_P, 145 USBC_N
part D pins: 22 PIN_22, 24 BATT_FAULT#, 26 RESET_EXT#, 87 RESET_OUT#
part E pins: 9 PIN_9/VSS_AUDIO, 10 VDD_ANALOG, 11 PIN_11/VSS_AUDIO, 12 VDD_ANALOG, 39 GND (power), 40 VCC_BATT (power), 41 GND (power), 42 3V3 (power), 83 GND (power), 84 3V3 (power), 108 3V3, 109 GND (power), 147 GND (power), 148 3V3, 181 GND (power), 182 3V3 (power), 197 GND (power), 198 3V3 (power), 199 GND (power), 200 3V3 (power)
part F pins: 28 PIN_28/PWM_B, 30 PIN_30/PWM_C, 59 PIN_59/PWM_A, 67 PIN_67, 86 PIN_86/SSPFRM, 88 PIN_88/SSPSCLK, 90 PIN_90/SSPRXD, 92 PIN_92/SSPTXD, 194 PIN_194/I2C_SDA, 196 PIN_196/I2C_SCL
part G pins: 1 PIN_1/MIC_IN, 3 PIN_3/MIC_GND, 5 PIN_5 /LINEIN_L, 7 PIN_7/LINEIN_R, 13 PIN_13/HEADPHONE_GND, 15 PIN_15/HEADPHONE_L, 17 PIN_17/HEADPHONE_R
part H pins: 14 PIN_14/TOUCH_TSPX, 16 PIN_16/TOUCH_TSMX, 18 PIN_18/TOUCH_TSPY, 20 PIN_20/TOUCH_TSMY
part I pins: 89 WE#, 91 OE#, 93 PIN_93/RD_WR#, 95 PIN_95/RDY, 99 PIN_99/WE#, 105 PIN_105/CS1#, 106 PIN_106/CS4#, 107 PIN_107/CS3#, 110 ADDR8, 111 ADDR0, 112 ADDR9, 113 ADDR1, 114 ADDR10, 115 ADDR2, 116 ADDR11, 117 ADDR3, 119 ADDR4, 121 ADDR5, 123 ADDR6, 125 ADDR7, 126 BE0#, 128 BE1#, 149 DATA0, 151 DATA1, 153 DATA2, 155 DATA3, 157 DATA4, 159 DATA5, 161 DATA6, 163 DATA7, 165 DATA8, 167 DATA9, 169 DATA10, 171 DATA11, 173 DATA12, 175 DATA13, 177 DATA14, 179 DATA15
part J pins: 19 PIN_19/UART_C_RXD, 21 PIN_21/UART_C_TXD, 23 PIN_23/UART_A_DTR, 25 PIN_25/UART_A_CTS, 27 PIN_27/UART_A_RTS, 29 PIN_29/UART_A_DSR, 31 PIN_31/UART_A_DCD, 32 PIN_32/UART_B_CTS, 33 PIN_33/UART_A_RXD, 34 PIN_34/UART_B_RTS, 35 PIN_35/UART_A_TXD, 36 PIN_36/UART_B_RXD, 37 PIN_37/UART_A_RI, 38 PIN_38/UART_B_TXD
part K pins: 43 WAKEUP/MM_CD, 47 PIN_47/MM_CLK, 49 PIN_49/MM_DAT_1, 51 PIN_51/MM_DAT_2, 53 PIN_53/MM_DAT_3, 190 PIN_190/MM_CMD, 192 PIN_192/MM_DAT_0
part L pins: 44 PIN_44/LCD_BIAS, 46 PIN_46/LCD_D_7, 48 PIN_48/LCD_D_9, 50 PIN_50/LCD_D_11, 52 PIN_52/LCD_D_12, 54 PIN_54/LCD_D_13, 56 PIN_56/LCD_PCLK_WR, 57 PIN_57/LCD_D_16, 58 PIN_58/LCD_D_3, 60 PIN_60/LCD_D_2, 61 PIN_61/LCD_D_17, 62 PIN_62/LCD_D_8, 64 PIN_64/LCD_D_15, 66 PIN_66/LCD_D_14, 68 PIN_68/LCD_LCLK_A0, 70 PIN_70/LCD_D_1, 71 PIN_71, 72 PIN_72/LCD_D_5, 73 PIN_73, 74 PIN_74/LCD_D_10, 76 PIN_76/LCD_D_0, 78 PIN_78/LCD_D_4, 80 PIN_80/LCD_D_6, 82 PIN_82/LCD_FCLK_RD
part M pins: 2 PIN_2/ANALOG_IN3, 4 PIN_4/ANALOG_IN2, 6 PIN_6/ANALOG_IN1, 8 PIN_8/ANALOG_IN0
part N pins: BE1, BE2

## CON-Wurth-693071010811
designator X?, comment Manufacturer Part No.: 693071010811  (hidden comment: MicroSD Holder)
Micro SD Holder Push Push CD; Manufacturer Name: Wurth; No. of ways: 9
footprint T_Wurth_693071010811 (MicroSD Holder, Push-Pust Type,)
pins: 1 DATA2 (power), 2 CD/DATA3, 3 CMD, 4 VCC, 5 CLK (power), 6 GND (power), 7 DATA0 (power), 8 DATA1 (power), CD1 (power), CD2 CD2 / GND (power), S1 S, S2 S

## D-Littelfuse-SMAJ30CA-Schottky
designator D?  Manufacturer Part No.: SMAJ30CA
Bidirectional ESD protection; Manufacturer Name: Littelfuse
footprint T_LITTLEFUSE_SMAJ30CA (Bidirectional ESD protection)
pins: 1 Cathode, 2 Anode

## D-Philips-BAT54-Schottky
designator D?, comment BAT54
BAT54 Schottky Diode; Manufacturer Name: Philips; Manufacturer Part No.: BAT54
footprint SOT95P230X110-3N
pins: 1, 3

## D-Philips-BAT54C-Schottky
designator D?, comment BAT54C
BAT54C Schottky Diode; Manufacturer Name: Philips; Manufacturer Part No.: BAT54C
footprint SOT95P230X110-3N
part A pins: 1, 3
part B pins: 2, 3

## D-Semtech-RClamp0504S
designator D?, comment RCLAMP0504S
TVS Array low cap; Manufacturer Name: Semtech; Manufacturer Part No.: RCLAMP0504S
footprint T_SOT95P285X90-6N (Footprint not found)
pins: 1 (power), 2 (power), 3 (power), 4 (power), 5 (power), 6 (power)

## D-TI-TPD2EUSB30DRTR
designator D?, comment TPD2EUSB30DRTR
2 Channel Protection for Super Speed USB3.0; Manufacturer Name: TI; Manufacturer Part No.: TPD2EUSB30DRTR
footprint T_TI_TPD2EUSB30DRTR (2 CHANNEL PROTECTION SOLUTION FOR SUPER-SPEED)
pins: 1 D+ (power), 2 D- (power), 3 (power)

## D-Vishay-SS3P3-M3/84A
designator D?, comment SS3P3-M3/84A
SS3P3-M3/84A Schottky Diodes; Manufacturer Name: Vishay; Manufacturer Part No.: SS3P3-M3/84A
footprint T_VISHAY_SS3P3 (Schottky Barrier Rectifiers. 2-Leads, Body 3.7x1.88mm)
pins: 1, 2

## D-Vishay-SS8P6C-M3/86A
designator D?, comment SS8P6C-M3/86A
Diode Schottky, SS8P6C-M3/86A, 60V(Vrrm), 8A(If); Manufacturer: Vishay; Manufacturer Part Number: SS8P6C-M3/86A
footprint T_DIOM_TO277A (Molded Diode, 3-Leads, Body 4.75x6.65mm, IPC Medium Density)
pins: A1, A2, K

## F-Littelfuse-045806.3DR
designator F?, comment 6A
Fast Fuse, Rated 6A, 75V(DC), 1206 (3216 Metric); Manufacturer Part No.: 045806.3DR; Manufacturer Name: Littelfuse; Value: 6A
footprint T_Littelfuse_0458 (Fast Fuse)
pins: 1, 2

## F-Littelfuse-0458007.DR
designator F?, comment 7A
Fast Fuse, Rated 7A, 63V(DC), 1206 (3216 Metric); Manufacturer Part No.: 0458007.DR; Manufacturer Name: Littelfuse; Value: 7A
footprint T_Littelfuse_0458 (Fast Fuse)
pins: 1, 2

## F-Littelfuse-0458008.DR
designator F?, comment 8A
Fast Fuse, Rated 8A, 63V(DC), 1206 (3216 Metric); Manufacturer Part No.: 0458008.DR; Manufacturer Name: Littelfuse; Value: 8A
footprint T_Littelfuse_0458 (Fast Fuse)
pins: 1, 2

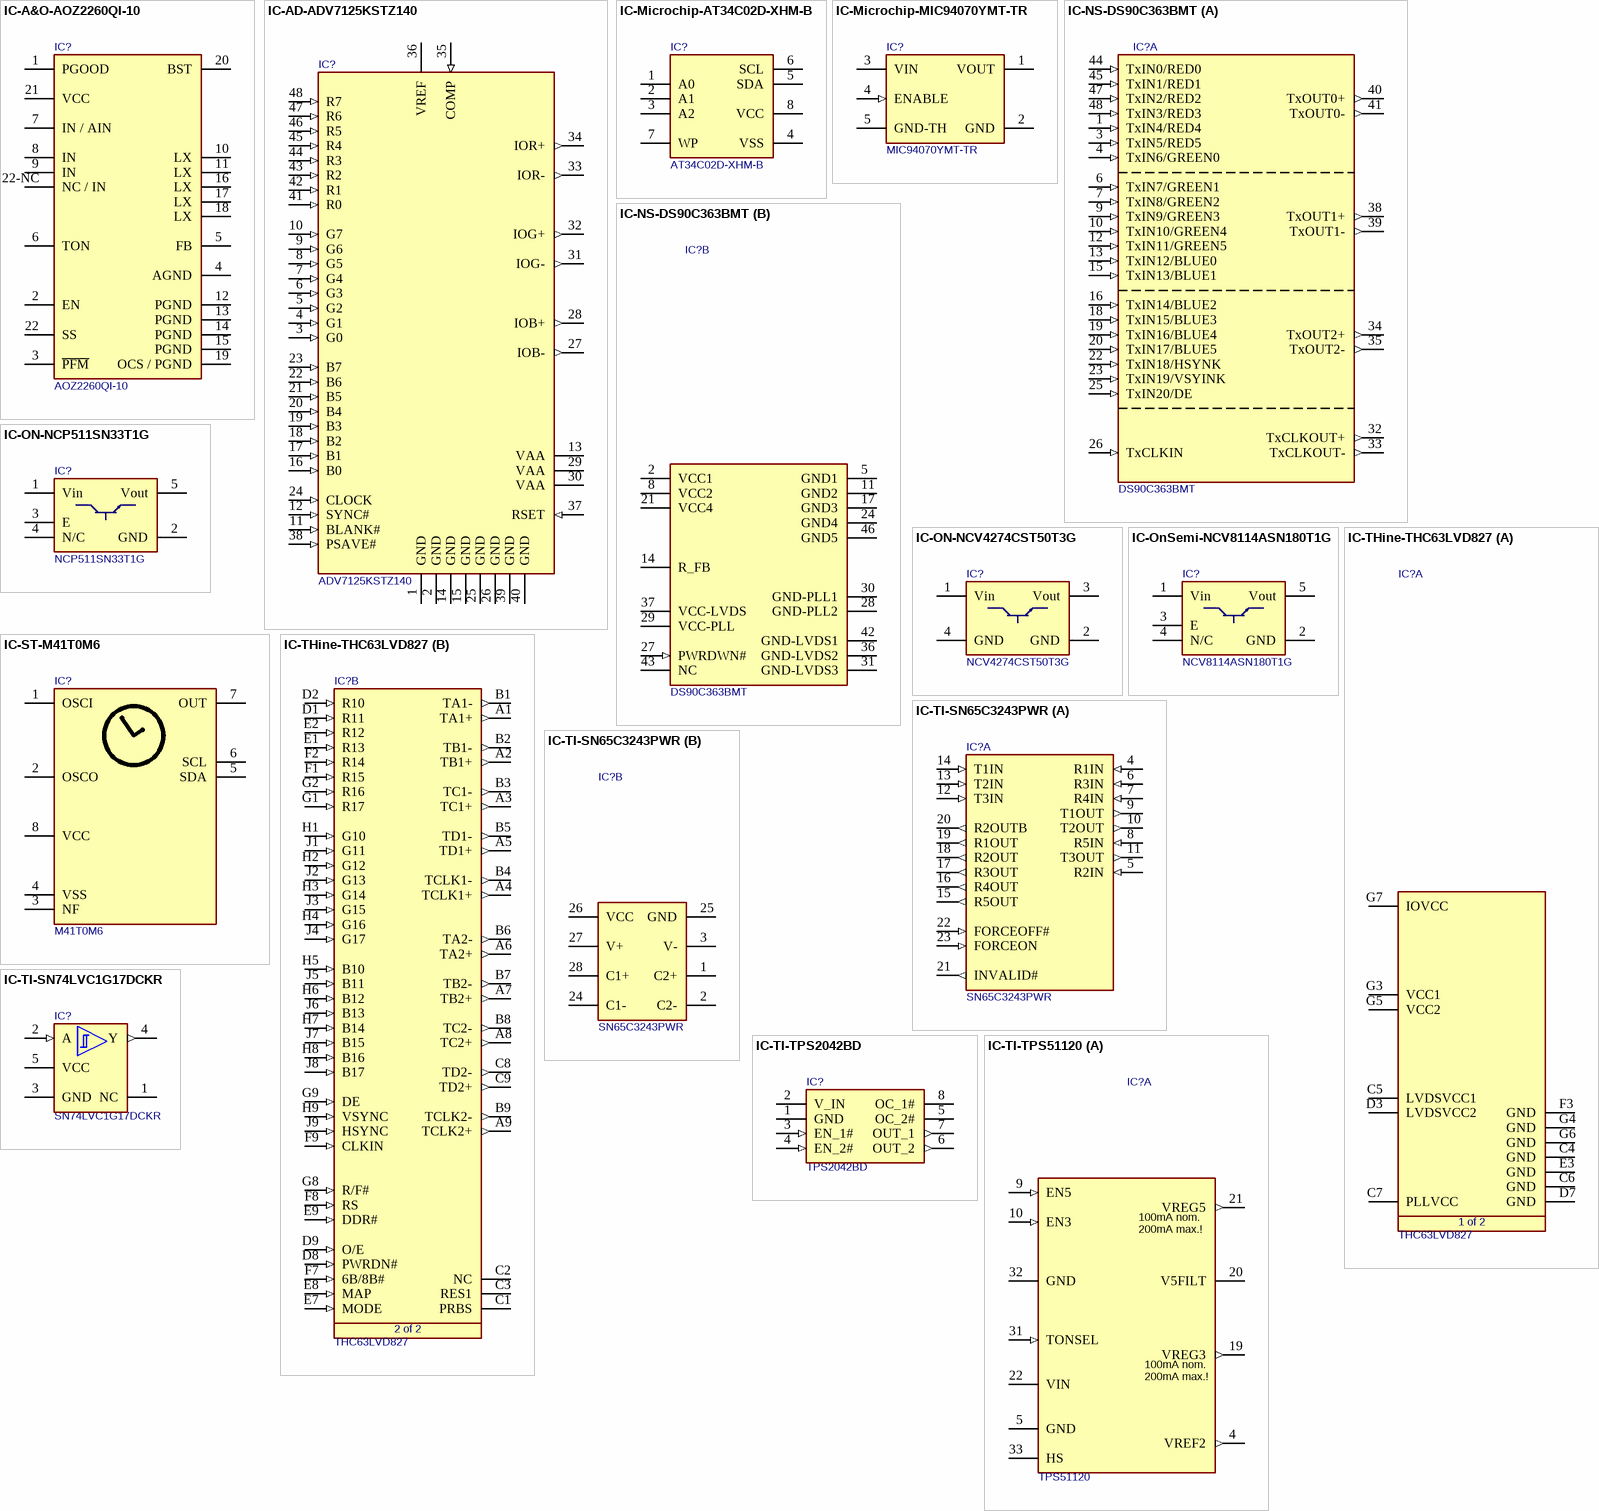
[diagram p4: symbols IC-A&O-AOZ2260QI-10 to IC-TI-TPS51120]

## IC-A&O-AOZ2260QI-10
designator IC?, comment AOZ2260QI-10
6A (Iout(max)) Synchronous Buck Regulator, QFN-22L (4mmx 4mm), Vin = 6.5V to 28V; Manufacturer Name: Alpha and Omega; Manufacturer Part No.: AOZ2260QI-10
footprint T_QFN50P400X400X100-22N (QFN, 22-Leads, Body 4.1x4.1mm (max), Pitch 0.50mm, IPC Medium Density)
footprint T_QFN50P400X400X100-23N (AOZ226x) - PIN22-NC_NOPASTE (QFN, 23-Leads, Body 4.1x4.1mm (max), Pitch 0.50mm, IPC Medium Density)
pins: 1 PGOOD (power), 2 EN (power), 3 ~{PFM} (power), 4 AGND (power), 5 FB (power), 6 TON (power), 7 IN / AIN (power), 8 IN (power), 9 IN (power), 10 LX (power), 11 LX (power), 12 PGND (power), 13 PGND (power), 14 PGND (power), 15 PGND (power), 16 LX (power), 17 LX (power), 18 LX (power), 19 OCS / PGND (power), 20 BST (power), 21 VCC (power), 22 SS (power), 22-NC NC / IN (power)

## IC-AD-ADV7125KSTZ140
designator IC?, comment ADV7125KSTZ140
Video DAC 8bit 140MHz; Manufacturer Name: Analog Devices; Manufacturer Part No.: ADV7125KSTZ140
footprint QFP50P900X900X120-48N
pins: 1 GND (power), 2 GND (power), 3 G0 (in), 4 G1 (in), 5 G2 (in), 6 G3 (in), 7 G4 (in), 8 G5 (in), 9 G6 (in), 10 G7 (in), 11 BLANK# (in), 12 SYNC# (in), 13 VAA (power), 14 GND (power), 15 GND (power), 16 B0 (in), 17 B1 (in), 18 B2 (in), 19 B3 (in), 20 B4 (in), 21 B5 (in), 22 B6 (in), 23 B7 (in), 24 CLOCK (in), 25 GND (power), 26 GND (power), 27 IOB- (out), 28 IOB+ (out), 29 VAA (power), 30 VAA (power), 31 IOG- (out), 32 IOG+ (out), 33 IOR- (out), 34 IOR+ (out), 35 COMP (in), 36 VREF (power), 37 RSET (in), 38 PSAVE# (in), 39 GND (power), 40 GND (power), 41 R0 (in), 42 R1 (in), 43 R2 (in), 44 R3 (in), 45 R4 (in), 46 R5 (in), 47 R6 (in), 48 R7 (in)

## IC-Microchip-AT34C02D-XHM-B
designator IC?, comment AT34C02D-XHM-B
EEPROM, 2Kbit (256 x 8), TSSOP-8 package; Manufacturer Name: Microchip; Manufacturer Part No.: AT34C02D-XHM-B
footprint TSOP65P650X120-8M (TSOP, 8-Leads, Body 3.1x4.5mm (max), Pitch 0.65mm, IPC Low Density)
pins: 1 A0, 2 A1, 3 A2, 4 VSS, 5 SDA, 6 SCL, 7 WP, 8 VCC

## IC-Microchip-MIC94070YMT-TR
designator IC?, comment MIC94070YMT-TR
High Side Load Switch, TDFN4 1.2 x 1.6; Manufacturer Name: Microchip; Package: TDFN-4; Manufacturer Part No.: MIC94070YMT-TR
footprint T_TDFN0P120X160X60-4N (TDFN, 4-Leads, Body 1.6x1.2mm (max), Pitch 0.50mm, IPC Medium Density)
pins: 1 VOUT (power), 2 GND (power), 3 VIN (power), 4 ENABLE (in), 5 GND-TH (power)

## IC-NS-DS90C363BMT
designator IC?, comment DS90C363BMT
LVDS Converter; Manufacturer Name: National Semiconductor; Manufacturer Part No.: DS90C363BMT
footprint SOP50P810X120-48N
part A pins: 1 TxIN4/RED4 (in), 3 TxIN5/RED5 (in), 4 TxIN6/GREEN0 (in), 6 TxIN7/GREEN1 (in), 7 TxIN8/GREEN2 (in), 9 TxIN9/GREEN3 (in), 10 TxIN10/GREEN4 (in), 12 TxIN11/GREEN5 (in), 13 TxIN12/BLUE0 (in), 15 TxIN13/BLUE1 (in), 16 TxIN14/BLUE2 (in), 18 TxIN15/BLUE3 (in), 19 TxIN16/BLUE4 (in), 20 TxIN17/BLUE5 (in), 22 TxIN18/HSYNK (in), 23 TxIN19/VSYINK (in), 25 TxIN20/DE (in), 26 TxCLKIN (in), 32 TxCLKOUT+ (out), 33 TxCLKOUT- (out), 34 TxOUT2+ (out), 35 TxOUT2- (out), 38 TxOUT1+ (out), 39 TxOUT1- (out), 40 TxOUT0+ (out), 41 TxOUT0- (out), 44 TxIN0/RED0 (in), 45 TxIN1/RED1 (in), 47 TxIN2/RED2 (in), 48 TxIN3/RED3 (in)
part B pins: 2 VCC1 (power), 5 GND1 (power), 8 VCC2 (power), 11 GND2 (power), 14 R_FB (power), 17 GND3 (power), 21 VCC4 (power), 24 GND4 (power), 27 PWRDWN# (in), 28 GND-PLL2 (power), 29 VCC-PLL (power), 30 GND-PLL1 (power), 31 GND-LVDS3 (power), 36 GND-LVDS2 (power), 37 VCC-LVDS (power), 42 GND-LVDS1 (power), 43 NC, 46 GND5 (power)

## IC-ON-NCP511SN33T1G
designator IC?, comment NCP511SN33T1G
NCP511SN33T1G LDO Regulator; Manufacturer Name: ON Semiconductor; Manufacturer Part No.: NCP511SN33T1G
footprint SOT95P279X142-5N
pins: 1 Vin, 2 GND, 3 E, 4 N/C, 5 Vout

## IC-ON-NCV4274CST50T3G
designator IC?, comment NCV4274CST50T3G
LDO regulator, Vout = 5V, Iout(max) = 0.4A, Vin = 5.5V to 40V, SOT-223; Manufacturer Name: ON Semiconductor; Manufacturer Part No.: NCV4274CST50T3G
footprint T_ON_NCV4264-2ST50T3G (SO4)
pins: 1 Vin, 2 GND, 3 Vout, 4 GND

## IC-OnSemi-NCV8114ASN180T1G
designator IC?, comment NCV8114ASN180T1G
LDO regulator, Vout = 1.8V, Imax = 300mA; Manufacturer Name: ON Semiconductor; Manufacturer Part No.: NCV8114ASN180T1G
footprint SOT95P279X142-5N
pins: 1 Vin, 2 GND, 3 E, 4 N/C, 5 Vout

## IC-ST-M41T0M6
designator IC?, comment M41T0M6
RTC M41T0M6; Manufacturer Name: ST; Manufacturer Part No.: M41T0M6
footprint SOIC127P600X173-8N
pins: 1 OSCI, 2 OSCO, 3 NF, 4 VSS, 5 SDA, 6 SCL, 7 OUT, 8 VCC

## IC-THine-THC63LVD827
designator IC?, comment THC63LVD827
LVDS Transmitter; Manufacturer Name: Thine; Manufacturer Part No.: THC63LVD827
footprint BGA72C65P9X9_700X700X120 (BGA, 72-Leads, Body 7.0x7.0mm,  Pitch 0.65mm)
part A pins: C4 GND (power), C5 LVDSVCC1 (power), C6 GND (power), C7 PLLVCC (power), D3 LVDSVCC2 (power), D7 GND (power), E3 GND (power), F3 GND (power), G3 VCC1 (power), G4 GND (power), G5 VCC2 (power), G6 GND (power), G7 IOVCC (power)
part B pins: A1 TA1+ (out), A2 TB1+ (out), A3 TC1+ (out), A4 TCLK1+ (out), A5 TD1+ (out), A6 TA2+ (out), A7 TB2+ (out), A8 TC2+ (out), A9 TCLK2+ (out), B1 TA1- (out), B2 TB1- (out), B3 TC1- (out), B4 TCLK1- (out), B5 TD1- (out), B6 TA2- (out), B7 TB2- (out), B8 TC2- (out), B9 TCLK2- (out), C1 PRBS (power), C2 NC (power), C3 RES1 (power), C8 TD2- (out), C9 TD2+ (out), D1 R11 (in), D2 R10 (in), D8 PWRDN# (in), D9 O/E (in), E1 R13 (in), E2 R12 (in), E7 MODE (in), E8 MAP (in), E9 DDR# (in), F1 R15 (in), F2 R14 (in), F7 6B/8B# (in), F8 RS (in), F9 CLKIN (in), G1 R17 (in), G2 R16 (in), G8 R/F# (in), G9 DE (in), H1 G10 (in), H2 G12 (in), H3 G14 (in), H4 G16 (in), H5 B10 (in), H6 B12 (in), H7 B14 (in), H8 B16 (in), H9 VSYNC (in), J1 G11 (in), J2 G13 (in), J3 G15 (in), J4 G17 (in), J5 B11 (in), J6 B13 (in), J7 B15 (in), J8 B17 (in), J9 HSYNC (in)
part A text: 1 of 2
part B text: 2 of 2

## IC-TI-SN65C3243PWR
designator IC?, comment SN65C3243PWR
RS-232 Serial Transceiver; Manufacturer Name: Texas Instruments; Manufacturer Part No.: SN65C3243PWR
footprint SOP65P780X200-28N
part A pins: 4 R1IN (in), 5 R2IN (in), 6 R3IN (in), 7 R4IN (in), 8 R5IN (in), 9 T1OUT (out), 10 T2OUT (out), 11 T3OUT (out), 12 T3IN (in), 13 T2IN (in), 14 T1IN (in), 15 R5OUT (out), 16 R4OUT (out), 17 R3OUT (out), 18 R2OUT (out), 19 R1OUT (out), 20 R2OUTB (out), 21 INVALID# (out), 22 FORCEOFF# (in), 23 FORCEON (in)
part B pins: 1 C2+ (power), 2 C2- (power), 3 V- (power), 24 C1- (power), 25 GND (power), 26 VCC (power), 27 V+ (power), 28 C1+ (power)

## IC-TI-SN74LVC1G17DCKR
designator IC?, comment SN74LVC1G17DCKR
Schmitt Trigger Buffer, SO-70 package; Manufacturer Name: Texas Instruments; Manufacturer Part No.: SN74LVC1G17DCKR
footprint SOT65P210X110-5N
pins: 1 NC, 2 A (in), 3 GND (power), 4 Y (out), 5 VCC (power)

## IC-TI-TPS2042BD
designator IC?, comment TPS2042BD
Dual High Side Switch With OC_DET 500mA/CH; Manufacturer Name: Texas Instruments; Manufacturer Part No.: TPS2042BD
footprint SOIC127P600X173-8N
pins: 1 GND (power), 2 V_IN (power), 3 EN_1# (in), 4 EN_2# (in), 5 OC_2#, 6 OUT_2 (out), 7 OUT_1 (out), 8 OC_1#

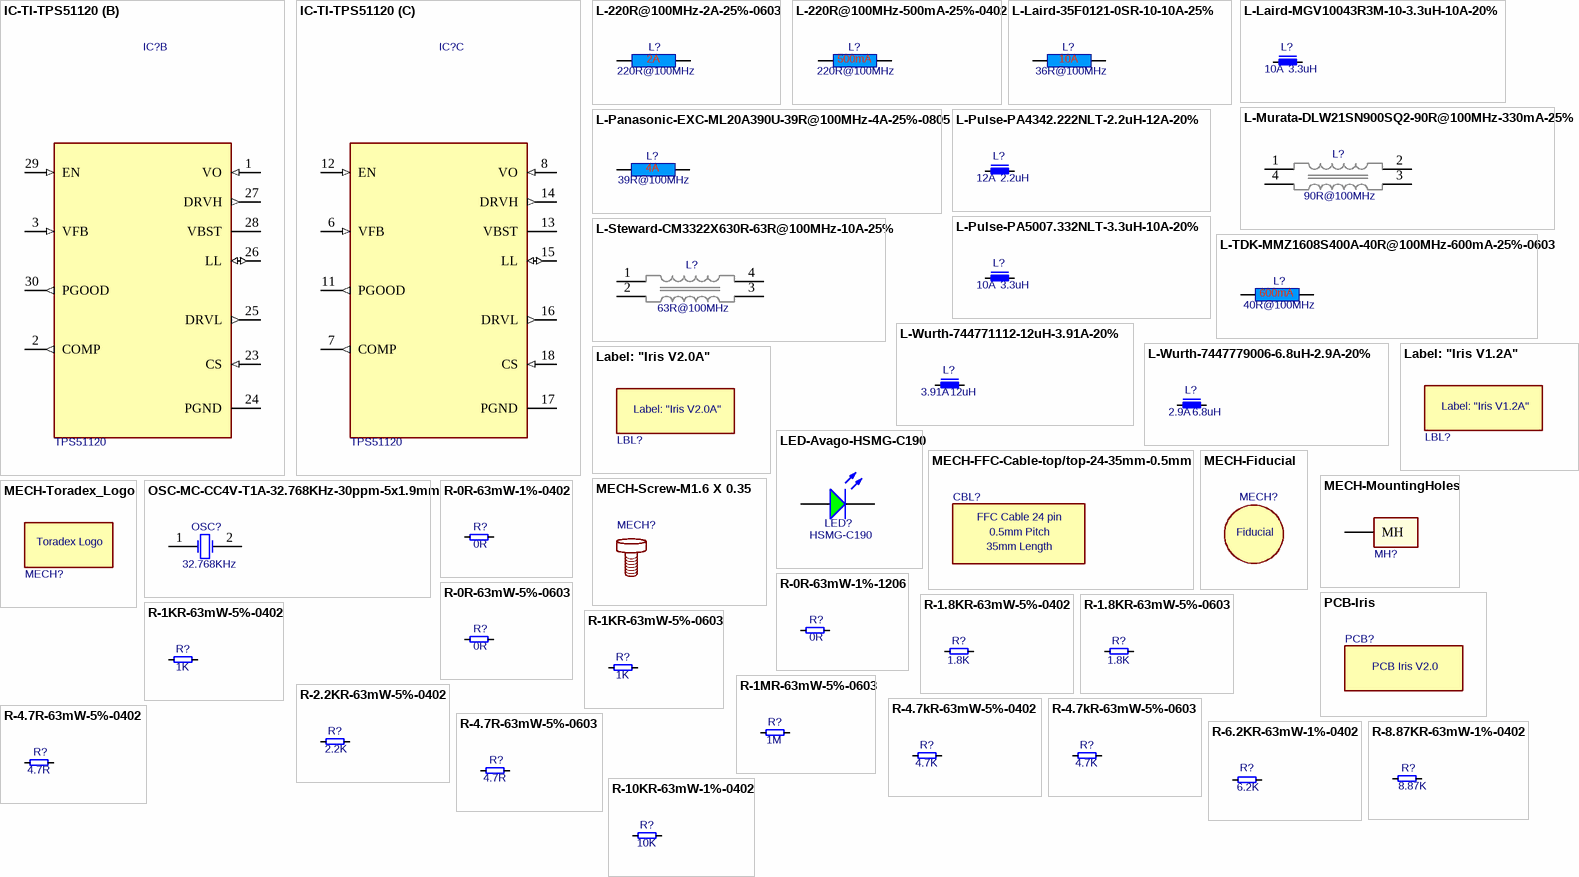
[diagram p5: symbols IC-TI-TPS51120 to R-10KR-63mW-1%-0402]

## IC-TI-TPS51120
designator IC?, comment TPS51120
Power Supply Controller; Manufacturer Name: Texas Instruments; Manufacturer Part No.: TPS51120
footprint QFN50P500X500X100-33N
part A pins: 4 VREF2 (out), 5 GND (power), 9 EN5 (in), 10 EN3 (in), 19 VREG3 (out), 20 V5FILT (power), 21 VREG5 (out), 22 VIN (power), 31 TONSEL (in), 32 GND (power), 33 HS
part B pins: 1 VO (in), 2 COMP (out), 3 VFB (in), 23 CS (in), 24 PGND (power), 25 DRVL (out), 26 LL (io), 27 DRVH (out), 28 VBST (power), 29 EN (in), 30 PGOOD (out)
part C pins: 6 VFB (in), 7 COMP (out), 8 VO (in), 11 PGOOD (out), 12 EN (in), 13 VBST, 14 DRVH (out), 15 LL (io), 16 DRVL (out), 17 PGND (power), 18 CS (in)
part A text: 100mA nom.; 200mA max.!

## L-220R@100MHz-2A-25%-0603
designator L?, comment 220R@100MHz
220R@100MHz 2A EMI FILTER; Tolerance: 25%; Rating: 2A; Value: 220R@100MHz
footprint INDC1608X95N
pins: 1, 2

## L-220R@100MHz-500mA-25%-0402
designator L?, comment 220R@100MHz
Ferrite Bead, 220R@100MHz, 500mA, 0402 (1005 metric); Tolerance: 25%; Rating: 500mA; Value: 220R@100MHz
footprint INDC1005X55N (Ferrite Bead 0402 (1005 metric), max height 0.55mm)
pins: 1, 2

## L-Laird-35F0121-0SR-10-10A-25%
designator L?, comment 36R@100MHz
Power Supply FB 10A; Tolerance: 25%; Rating: 10A; Value: 36R@100MHz
footprint T_Laird_35F0121-0SR-10 (Power supply FB 10A)
pins: 1, 2

## L-Laird-MGV10043R3M-10-3.3uH-10A-20%
designator L?, comment Rating: 10A  (hidden comment: 3.3uH)
Inductance 3.3uH, 20%, Irms=10A, Isat=18.6A, DCR=11.8 mOhm; Manufacturer Name: Laird; Manufacturer Part No.: MGV10043R3M-10; I (saturation): 18.6; I (RMS): 10; Tolerance: 20%; Value: 3.3uH
footprint T_INDM110100 (Inductor shielded, 11mm x 10mm (Bourns, SRP1038A; Vishay, IHLP4040DZ-8A))
pins: 1, 2

## L-Murata-DLW21SN900SQ2-90R@100MHz-330mA-25%
designator L?, comment 90R@100MHz
Common Mode Choke High Speed 90R 330mA; Manufacturer Name: Murata; Manufacturer Part No.: DLW21SN900SQ2; Tolerance: 25%; Rating: 330mA; Value: 90R@100MHz
footprint T_Murata_DLW21SN900SQ2 (Common Mode Choke)
pins: 1, 2, 3, 4

## L-Panasonic-EXC-ML20A390U-39R@100MHz-4A-25%-0805
designator L?, comment 39R@100MHz
39R@100MHz 4A EMI FILTER; Manufacturer Name: Panasonic; Manufacturer Name: EXC-ML20A390U; Tolerance: 25%; Rating: 4A; Value: 39R@100MHz
footprint INDC2012X130N
pins: 1, 2

## L-Pulse-PA4342.222NLT-2.2uH-12A-20%
designator L?, comment Rating: 12A  (hidden comment: 2.2uH)
Inductance 2.2uH, 20%, Irms=12A, Isat=27A, DCR=7 mOhm; Manufacturer Name: Pulse; Manufacturer Part No.: PA4342.222NLT; I (saturation): 27A; Tolerance: 20%; I (RMS): 12A; Value: 2.2uH
footprint T_INDM110100 (Inductor shielded, 11mm x 10mm (Bourns, SRP1038A; Vishay, IHLP4040DZ-8A))
pins: 1, 2

## L-Pulse-PA5007.332NLT-3.3uH-10A-20%
designator L?, comment Rating: 10A  (hidden comment: 3.3uH)
Inductance 3.3uH, 20%, Irms=10A, Isat=15A, DCR=18 mOhm; Manufacturer Name: Pulse; Manufacturer Part No.: PA5007.332NLT; I (saturation): 15A; Tolerance: 20%; I (RMS): 10A; Value: 3.3uH
footprint T_INDM780760 (Inductor shielded, 7.80mm x 7.60mm (Pulse, PA5007.332NLT; Abracon, ASPIAIG-F7030-3R3M-T))
pins: 1, 2

## L-Steward-CM3322X630R-63R@100MHz-10A-25%
designator L?, comment 63R@100MHz
Common Mode Choke 63R 10A; Manufacturer Name: Steward; Manufacturer Part No.: CM3322X630R-10; Tolerance: 25%; Rating: 10A; Value: 63R@100MHz
footprint T_Steward_CM3322X630R-10 (Common Mode Choke)
pins: 1, 2, 3, 4

## L-TDK-MMZ1608S400A-40R@100MHz-600mA-25%-0603
designator L?, comment 40R@100MHz
40R@100MHz 600mA EMI FILTER; Manufacturer Part No.: MMZ1608S400A; Manufacturer Name: TDK; Tolerance: 25%; Rating: 600mA; Value: 40R@100MHz
footprint INDC1608X95N
pins: 1, 2

## L-Wurth-744771112-12uH-3.91A-20%
designator L?, comment Rating: 3.91A  (hidden comment: 12uH)
Inductance 12uH 3.91A 20%; Manufacturer Name: Wurth; Manufacturer Part No.: 744771112; Tolerance: 20%; Value: 12uH
footprint T_INDM125125X80N (Inductor shielded, 12.5mm X 12.5mm)
pins: 1, 2

## L-Wurth-7447779006-6.8uH-2.9A-20%
designator L?, comment Rating: 2.9A  (hidden comment: 6.8uH)
Inductance 6.8uH 2.9A 20%; Manufacturer Name: Wurth; Manufacturer Part No.: 7447779006; Tolerance: 20%; Value: 6.8uH
footprint T_INDM7373X45N
pins: 1, 2

## Label: "Iris V1.2A"
designator LBL?, comment Barcode Label  (value not drawn)
Manufacturer Name: Generic; Manufacturer Part No.: Barcode Label
footprint T_BARCODE_LABEL (Barcode Label)

## Label: "Iris V2.0A"
designator LBL?, comment Barcode Label  (value not drawn)
Manufacturer Name: Generic; Manufacturer Part No.: Barcode Label
footprint T_BARCODE_LABEL (Barcode Label)

## LED-Avago-HSMG-C190
designator LED?, comment Manufacturer Part No.: HSMG-C190  (hidden comment: LED)
Surface mount LED green 20mA; Manufacturer Name: Avago
footprint LEDC1608X80N
pins: 1 K, 2 A

## MECH-FFC-Cable-top/top-24-35mm-0.5mm
designator CBL?, comment FFC Cable  (value not drawn)
FFC Cable 24 pin 35mm 0.5mm pitch; Manufacturer Name: Generic; Manufacturer Part No.: *
text: FFC Cable 24 pin; 0.5mm Pitch; 35mm Length

## MECH-Fiducial
designator MECH?  (value not drawn)
Fiducial
footprint T_Fiducial (Fiducial)

## MECH-MountingHoles
designator MH?  (value not drawn)  (no BOM)
PCB Mounting Holes, hole diemeter = 3.2mm, pad diameter = 6.2mm
footprint T_MountingHoles (PCB Mounting Holes)
pins: 1 MH

## MECH-Screw-M1.6 X 0.35 
designator MECH?, comment M1.6 X 0.35  (value not drawn)
PCB Fastener Screws, flat head, M1.6 X 0.35; Manufacturer Name: Metricscrews; Manufacturer Part No.: 10424

## MECH-Toradex_Logo
designator MECH?  (value not drawn)  (no BOM)
Toradex_Logo
footprint T_TORADEX_LOGO (Toradex Logo)
text: Toradex Logo

## OSC-MC-CC4V-T1A-32.768KHz-30ppm-5x1.9mm
designator OSC?, comment value 32.768KHz  (hidden comment: CC4V-T1A)
Quartz 32.768kHz; Manufacturer Name: Micro Crystal; Tolerance: 30ppm; Manufacturer Part No.: CC4V-T1A
footprint T_MC_CC4V-T1A
pins: 1 OSC1, 2 OSC2

## PCB-Iris
designator PCB?, comment MECH-Iris  (value not drawn)
PCB Iris; Manufacturer Name: Generic; Manufacturer Part No.: *
text: PCB Iris V2.0

## R-0R-63mW-1%-0402
designator R?, comment 0R
Resistor 0 ohm 63mW 1% 0402; Rating: 63mW; Tolerance: 1%; Value: 0R
footprint RESC1005X40N
pins: 1, 2

## R-0R-63mW-1%-1206
designator R?, comment 0R
Resistor 0 ohm 63mW 1% 1206; Rating: 63mW; Tolerance: 1%; Value: 0R
footprint T_RESC3216X760N
pins: 1, 2

## R-0R-63mW-5%-0603
designator R?, comment 0R
Resistor 0 ohm 63mW 5% 0603; Rating: 63mW; Tolerance: 5%; Size: 0603 (In); Value: 0R
footprint T_RESC0603X30N
pins: 1, 2

## R-1.8KR-63mW-5%-0402
designator R?, comment 1.8K
Resistor 1.8 Kohm 63mW 5% 0402; Value: 1.8KR; Rating: 63mW; Tolerance: 5%
footprint RESC1005X40N
pins: 1, 2

## R-1.8KR-63mW-5%-0603
designator R?, comment 1.8K
Resistor 1.8 Kohm 63mW 5% 0603; Value: 1.8KR; Rating: 63mW; Tolerance: 5%
footprint T_RESC0603X30N
pins: 1, 2

## R-1KR-63mW-5%-0402
designator R?, comment 1K
Resistor 1 Kohm 63mW 5% 0402; Rating: 63mW; Tolerance: 5%; Value: 1K
footprint RESC1005X40N
pins: 1, 2

## R-1KR-63mW-5%-0603
designator R?, comment 1K
Resistor 1 Kohm 63mW 5% 0603; Rating: 63mW; Tolerance: 5%; Value: 1K
footprint T_RESC0603X30N
pins: 1, 2

## R-1MR-63mW-5%-0603
designator R?, comment 1M
Resistor 1 Mohm 63mW 5% 0603; Value: 1MR; Rating: 63mW; Tolerance: 5%
footprint T_RESC0603X30N
pins: 1, 2

## R-2.2KR-63mW-5%-0402
designator R?, comment 2.2K
Resistor 2.2 Kohm 63mW 5% 0402; Value: 2.2KR; Rating: 63mW; Tolerance: 5%
footprint RESC1005X40N
pins: 1, 2

## R-4.7kR-63mW-5%-0402
designator R?, comment 4.7K
Resistor 4.7 Kohm 63mW 5% 0402; Value: 4.7KR; Rating: 63mW; Tolerance: 5%
footprint RESC1005X40N
pins: 1, 2

## R-4.7kR-63mW-5%-0603
designator R?, comment 4.7K
Resistor 4.7 Kohm 63mW 5% 0603; Value: 4.7KR; Rating: 63mW; Tolerance: 5%
footprint t_RESC0603X30N
pins: 1, 2

## R-4.7R-63mW-5%-0402
designator R?, comment 4.7R
Resistor 4.7 ohm 63mW 5% 0402; Rating: 63mW; Tolerance: 5%; Value: 4.7R
footprint RESC1005X40N
pins: 1, 2

## R-4.7R-63mW-5%-0603
designator R?, comment 4.7R
Resistor 4.7 ohm 63mW 5% 0603; Rating: 63mW; Tolerance: 5%; Value: 4.7R
footprint T_RESC0603X30N (Film Resistor 0603 (1608 metric), max height 0.45mm)
pins: 1, 2

## R-6.2KR-63mW-1%-0402
designator R?, comment 6.2K
Resistor 6.2 Kohm 63mW 1% 0402; Value: 6.2KR; Rating: 63mW; Tolerance: 1%
footprint RESC1005X40N
pins: 1, 2

## R-8.87KR-63mW-1%-0402
designator R?, comment 8.87K
Resistor 8.87 Kohm 63mW 1% 0402; Value: 8.87KR; Rating: 63mW; Tolerance: 1%
footprint RESC1005X40N
pins: 1, 2

## R-10KR-63mW-1%-0402
designator R?, comment 10K
Resistor 10 Kohm 63mW 1% 0402; Value: 10KR; Rating: 63mW; Tolerance: 1%
footprint RESC1005X40N
pins: 1, 2

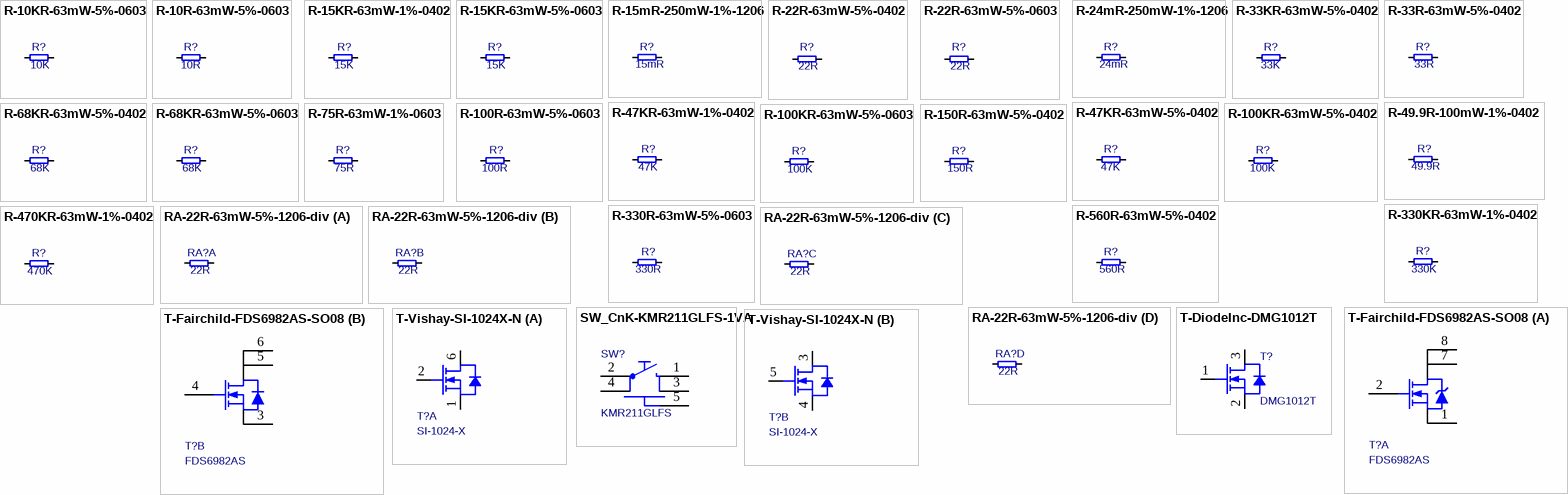
[diagram p6: symbols R-10KR-63mW-5%-0603 to T-Vishay-SI-1024X-N]

## R-10KR-63mW-5%-0603
designator R?, comment 10K
Resistor 10 Kohm 63mW 5% 0603; Value: 10KR; Rating: 63mW; Tolerance: 5%
footprint T_RESC0603X30N
pins: 1, 2

## R-10R-63mW-5%-0603
designator R?, comment 10R
Resistor 10 ohm 63mW 5% 0603; Rating: 63mW; Tolerance: 5%; Value: 10R
footprint T_RESC0603X30N
pins: 1, 2

## R-15KR-63mW-1%-0402
designator R?, comment 15K
Resistor 15 Kohm 63mW 1% 0402; Value: 15KR; Rating: 63mW; Tolerance: 1%
footprint RESC1005X40N
pins: 1, 2

## R-15KR-63mW-5%-0603
designator R?, comment 15K
Resistor 15 Kohm 63mW 5% 0603; Value: 15KR; Rating: 63mW; Tolerance: 5%
footprint T_RESC0603X30N
pins: 1, 2

## R-15mR-250mW-1%-1206
designator R?, comment 15mR
Resistor 15 mohm 250mW 1% 1206; Rating: 250mW; Tolerance: 1%; Value: 15mR
footprint RESC3316X76N
pins: 1, 2

## R-22R-63mW-5%-0402
designator R?, comment 22R
Resistor 22 ohm 63mW 5% 0402; Rating: 63mW; Tolerance: 5%; Value: 22R
footprint RESC1005X40N
pins: 1, 2

## R-22R-63mW-5%-0603
designator R?, comment 22R
Resistor 22 ohm 63mW 5% 0603; Rating: 63mW; Tolerance: 5%; Value: 22R
footprint T_RESC0603X30N
pins: 1, 2

## R-24mR-250mW-1%-1206
designator R?, comment 24mR
Resistor 24 mohm 250mW 1% 1206; Rating: 250mW; Tolerance: 1%; Value: 24mR
footprint RESC3316X76N
pins: 1, 2

## R-33KR-63mW-5%-0402
designator R?, comment 33K
Resistor 33 Kohm 63mW 5% 0402; Value: 33KR; Rating: 63mW; Tolerance: 5%
footprint RESC1005X40N
pins: 1, 2

## R-33R-63mW-5%-0402
designator R?, comment 33R
Resistor 33 ohm 63mW 5% 0402; Rating: 63mW; Tolerance: 5%; Value: 33R
footprint RESC1005X40N
pins: 1, 2

## R-47KR-63mW-1%-0402
designator R?, comment 47K
Resistor 47 Kohm 63mW 1% 0402; Value: 47KR; Rating: 63mW; Tolerance: 1%
footprint RESC1005X40N
pins: 1, 2

## R-47KR-63mW-5%-0402
designator R?, comment 47K
Resistor 47 Kohm 63mW 5% 0402; Value: 47KR; Rating: 63mW; Tolerance: 5%
footprint RESC1005X40N
pins: 1, 2

## R-49.9R-100mW-1%-0402
designator R?, comment 49.9R
Resistor 49.9 ohm 100mW 1% 0402; Rating: 100mW; Tolerance: 1%; Size: 0402; Value: 49.9R
footprint RESC1005X40N
pins: 1, 2

## R-68KR-63mW-5%-0402
designator R?, comment 68K
Resistor 68 Kohm 63mW 5% 0402; Value: 68KR; Rating: 63mW; Tolerance: 5%
footprint RESC1005X40N
pins: 1, 2

## R-68KR-63mW-5%-0603
designator R?, comment 68K
Resistor 68 Kohm 63mW 5% 0603; Value: 68KR; Rating: 63mW; Tolerance: 5%
footprint T_RESC0603X30N
pins: 1, 2

## R-75R-63mW-1%-0603
designator R?, comment 75R
Resistor 75 ohm 63mW 1% 0603; Rating: 63mW; Tolerance: 1%; Value: 75R
footprint T_RESC0603X30N
pins: 1, 2

## R-100KR-63mW-5%-0402
designator R?, comment 100K
Resistor 100 Kohm 63mW 5% 0402; Value: 100KR; Rating: 63mW; Tolerance: 5%
footprint RESC1005X40N
pins: 1, 2

## R-100KR-63mW-5%-0603
designator R?, comment 100K
Resistor 100 Kohm 63mW 5% 0603; Value: 100KR; Rating: 63mW; Tolerance: 5%
footprint T_RESC0603X30N
pins: 1, 2

## R-100R-63mW-5%-0603
designator R?, comment 100R
Resistor 100 ohm 63mW 5% 0603; Rating: 63mW; Tolerance: 5%; Value: 100R
footprint T_RESC0603X30N
pins: 1, 2

## R-150R-63mW-5%-0402
designator R?, comment 150R
Resistor 150 ohm 63mW 5% 0402; Rating: 63mW; Tolerance: 5%; Value: 150R
footprint RESC1005X40N
pins: 1, 2

## R-330KR-63mW-1%-0402
designator R?, comment 330K
Resistor 330 Kohm 63mW 1% 0402; Value: 330KR; Rating: 63mW; Tolerance: 1%
footprint RESC1005X40N
pins: 1, 2

## R-330R-63mW-5%-0603
designator R?, comment 330R
Resistor 330 ohm 63mW 5% 0603; Rating: 63mW; Tolerance: 5%; Value: 330R
footprint T_RESC0603X30N
pins: 1, 2

## R-470KR-63mW-1%-0402
designator R?, comment 470K
Resistor 470 Kohm 63mW 1% 0402; Value: 470KR; Rating: 63mW; Tolerance: 1%
footprint RESC1005X40N
pins: 1, 2

## R-560R-63mW-5%-0402
designator R?, comment 560R
Resistor 560 ohm 63mW 5% 0402; Rating: 63mW; Tolerance: 5%; Value: 560R
footprint RESC1005X40N
pins: 1, 2

## RA-22R-63mW-5%-1206-div
designator RA?, comment 22R
Resistor Array 22 R 63mW 5% 1206; Manufacturer Name: Generic; Tolerance: 5%; Power Dissipation: 63mW; Manufacturer Part Number: *; Value: 22R
footprint T_Resistor_Array_X4 (Resistor Array 0.8mm)
part A pins: 1, 5
part B pins: 2, 6
part C pins: 3, 7
part D pins: 4, 8

## SW_CnK-KMR211GLFS-1VA
designator SW?, comment KMR211GLFS
Power ON Switch; Manufacturer Name: C&N; Rating: 1VA; Manufacturer Part No.: KMR211GLFS
footprint T_CnK_KMR211GLFS (Microminiature Tact Switch for SMT)
pins: 1, 2, 3, 4, 5

## T-DiodeInc-DMG1012T
designator T?  Manufacturer Part No.: DMG1012T  (hidden comment: T-DiodeInc-DMG1012T)
N-Channel 20V (D-S)  MOSFET; Manufacturer Name: Diode Inc
footprint T_SOT50P160X80-3N (SOT23, 3-Leads, Body 1.7x1.8mm (max), Pitch 0.50mm, IPC Medium Density)
pins: 1 G, 2 S, 3 D

## T-Fairchild-FDS6982AS-SO08
designator T?, comment FDS6982AS
Power Supplay SyncFET N-Channel, SOIC-8 package; Manufacturer Name: Fairchild; Manufacturer Part No.: FDS6982AS
footprint SOIC127P600X173-8N
part A pins: 1 S, 2 G, 7 D, 8 D
part B pins: 3 S, 4 G, 5 D, 6 D

## T-Vishay-SI-1024X-N
designator T?  Manufacturer Part No.: SI-1024-X  (hidden comment: T-Vishay-SI-1024X-N)
Dual N-Channel 20V (D-S)  MOSFET; Manufacturer Name: Vishay
footprint SOTFL50P160X60-6N
part A pins: 1 S, 2 G, 6 D
part B pins: 3 D, 4 S, 5 G